# Altium integrated library ST Memory EEPROM Flash.IntLib: 1183 symbols (part 14 of 23)
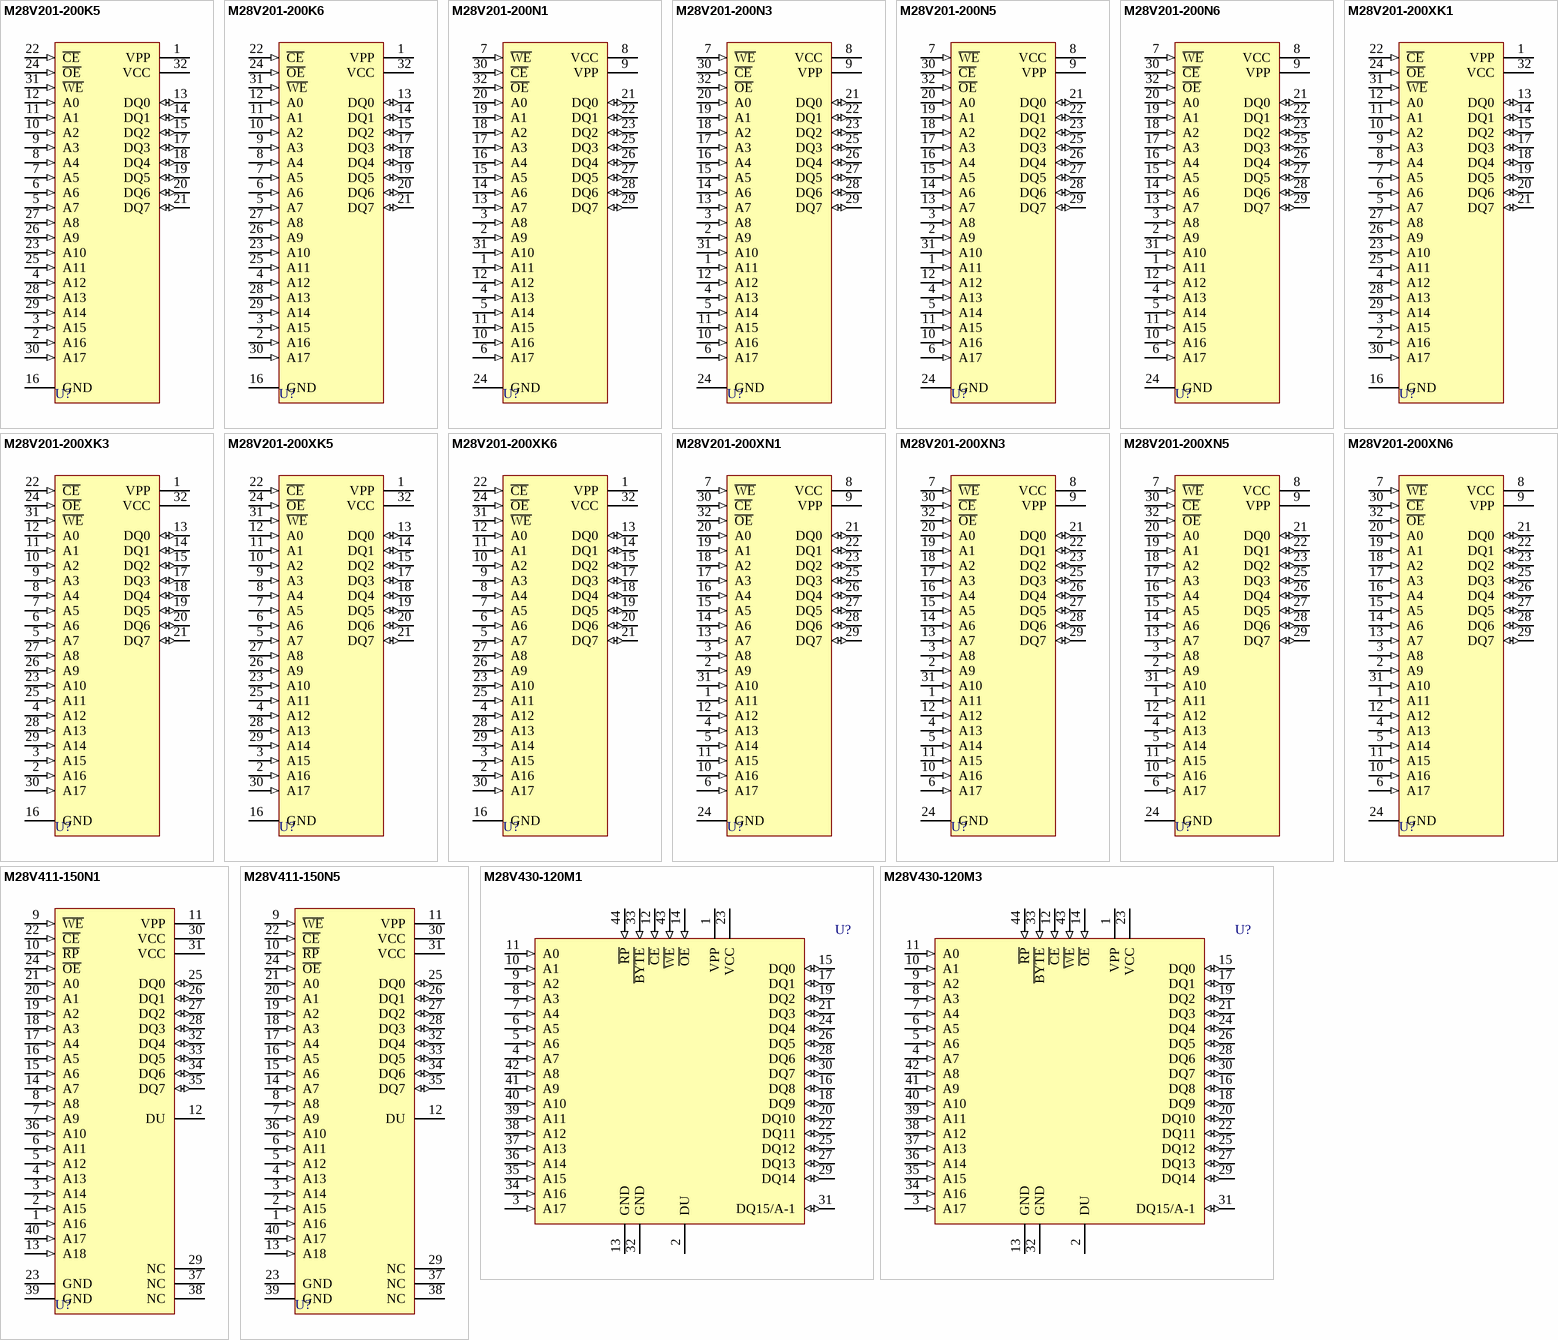
[diagram p94: symbols M28V201-200K5 to M28V430-120M3]

## M28V201-200XN6
designator U?
Low-Voltage 2 Mbit ( 256K x 8, Chip Erase) Flash Memory; Published: 24-Aug-2001; LatestRevisionDate: 26-May-2004; LatestRevisionNote: Pad length of PCB Footprint increased.; DatasheetDocument: Mar-1996; PackageDocument: Mar-1999; PackageReference: TSOP32; Publisher: Altium Limited; Code_JEDEC: MO-142-BD
footprint TSOP32 (Shrink Small Outline, Plastic, Thin; 32 Leads; Body Width 18.4 mm; Pitch 0.5 mm)
pins: 1 A11 (in), 2 A9 (in), 3 A8 (in), 4 A13 (in), 5 A14 (in), 6 A17 (in), 7 ~{WE} (in), 8 VCC (power), 9 VPP (power), 10 A16 (in), 11 A15 (in), 12 A12 (in), 13 A7 (in), 14 A6 (in), 15 A5 (in), 16 A4 (in), 17 A3 (in), 18 A2 (in), 19 A1 (in), 20 A0 (in), 21 DQ0 (io), 22 DQ1 (io), 23 DQ2 (io), 24 GND (power), 25 DQ3 (io), 26 DQ4 (io), 27 DQ5 (io), 28 DQ6 (io), 29 DQ7 (io), 30 ~{CE} (in), 31 A10 (in), 32 ~{OE} (in)

## M28V411-150N1
designator U?
Low-Voltage 4 Mbit (x8, Block Erase) Flash Memory; Note: Do Not Use pin number 12 (DU).; Published: 24-Aug-2001; LatestRevisionDate: 17-Jul-2002; LatestRevisionNote: Re-released for DXP Platform.; DatasheetDocument: Oct-1995; PackageDocument: Jul-1998; PackageReference: TSOP40A; Publisher: Altium Limited; Code_JEDEC: MO-142-CD
footprint TSOP40A (Shrink Small Outline, Plastic, Thin; 40 Leads; Body Width 18.4 mm; Pitch 0.5 mm)
pins: 1 A16 (in), 2 A15 (in), 3 A14 (in), 4 A13 (in), 5 A12 (in), 6 A11 (in), 7 A9 (in), 8 A8 (in), 9 ~{WE} (in), 10 ~{RP} (in), 11 VPP (power), 12 DU, 13 A18 (in), 14 A7 (in), 15 A6 (in), 16 A5 (in), 17 A4 (in), 18 A3 (in), 19 A2 (in), 20 A1 (in), 21 A0 (in), 22 ~{CE} (in), 23 GND (power), 24 ~{OE} (in), 25 DQ0 (io), 26 DQ1 (io), 27 DQ2 (io), 28 DQ3 (io), 29 NC, 30 VCC (power), 31 VCC (power), 32 DQ4 (io), 33 DQ5 (io), 34 DQ6 (io), 35 DQ7 (io), 36 A10 (in), 37 NC, 38 NC, 39 GND (power), 40 A17 (in)

## M28V411-150N5
designator U?
Low-Voltage 4 Mbit (x8, Block Erase) Flash Memory; Note: Do Not Use pin number 12 (DU).; Published: 24-Aug-2001; LatestRevisionDate: 17-Jul-2002; LatestRevisionNote: Re-released for DXP Platform.; DatasheetDocument: Oct-1995; PackageDocument: Jul-1998; PackageReference: TSOP40A; Publisher: Altium Limited; Code_JEDEC: MO-142-CD
footprint TSOP40A (Shrink Small Outline, Plastic, Thin; 40 Leads; Body Width 18.4 mm; Pitch 0.5 mm)
pins: 1 A16 (in), 2 A15 (in), 3 A14 (in), 4 A13 (in), 5 A12 (in), 6 A11 (in), 7 A9 (in), 8 A8 (in), 9 ~{WE} (in), 10 ~{RP} (in), 11 VPP (power), 12 DU, 13 A18 (in), 14 A7 (in), 15 A6 (in), 16 A5 (in), 17 A4 (in), 18 A3 (in), 19 A2 (in), 20 A1 (in), 21 A0 (in), 22 ~{CE} (in), 23 GND (power), 24 ~{OE} (in), 25 DQ0 (io), 26 DQ1 (io), 27 DQ2 (io), 28 DQ3 (io), 29 NC, 30 VCC (power), 31 VCC (power), 32 DQ4 (io), 33 DQ5 (io), 34 DQ6 (io), 35 DQ7 (io), 36 A10 (in), 37 NC, 38 NC, 39 GND (power), 40 A17 (in)

## M28V430-120M1
designator U?
Low-Voltage 4 Mbit (x8 or x16, Block Erase) Flash Memory; Note: Do Not Use pin number 2 (DU).; Published: 24-Aug-2001; LatestRevisionDate: 17-Jul-2002; LatestRevisionNote: Re-released for DXP Platform.; DatasheetDocument: Jun-1996; PackageReference: SO44; Publisher: Altium Limited
footprint SO44 (Small Outline, Plastic; 44 Leads; Body Width 13.3 mm; Pitch 1.27 mm)
pins: 1 VPP (power), 2 DU, 3 A17 (in), 4 A7 (in), 5 A6 (in), 6 A5 (in), 7 A4 (in), 8 A3 (in), 9 A2 (in), 10 A1 (in), 11 A0 (in), 12 ~{CE} (in), 13 GND (power), 14 ~{OE} (in), 15 DQ0 (io), 16 DQ8 (io), 17 DQ1 (io), 18 DQ9 (io), 19 DQ2 (io), 20 DQ10 (io), 21 DQ3 (io), 22 DQ11 (io), 23 VCC (power), 24 DQ4 (io), 25 DQ12 (io), 26 DQ5 (io), 27 DQ13 (io), 28 DQ6 (io), 29 DQ14 (io), 30 DQ7 (io), 31 DQ15/A-1 (io), 32 GND (power), 33 ~{BYTE} (in), 34 A16 (in), 35 A15 (in), 36 A14 (in), 37 A13 (in), 38 A12 (in), 39 A11 (in), 40 A10 (in), 41 A9 (in), 42 A8 (in), 43 ~{WE} (in), 44 ~{RP} (in)

## M28V430-120M3
designator U?
Low-Voltage 4 Mbit (x8 or x16, Block Erase) Flash Memory; Note: Do Not Use pin number 2 (DU).; Published: 24-Aug-2001; LatestRevisionDate: 17-Jul-2002; LatestRevisionNote: Re-released for DXP Platform.; DatasheetDocument: Jun-1996; PackageReference: SO44; Publisher: Altium Limited
footprint SO44 (Small Outline, Plastic; 44 Leads; Body Width 13.3 mm; Pitch 1.27 mm)
pins: 1 VPP (power), 2 DU, 3 A17 (in), 4 A7 (in), 5 A6 (in), 6 A5 (in), 7 A4 (in), 8 A3 (in), 9 A2 (in), 10 A1 (in), 11 A0 (in), 12 ~{CE} (in), 13 GND (power), 14 ~{OE} (in), 15 DQ0 (io), 16 DQ8 (io), 17 DQ1 (io), 18 DQ9 (io), 19 DQ2 (io), 20 DQ10 (io), 21 DQ3 (io), 22 DQ11 (io), 23 VCC (power), 24 DQ4 (io), 25 DQ12 (io), 26 DQ5 (io), 27 DQ13 (io), 28 DQ6 (io), 29 DQ14 (io), 30 DQ7 (io), 31 DQ15/A-1 (io), 32 GND (power), 33 ~{BYTE} (in), 34 A16 (in), 35 A15 (in), 36 A14 (in), 37 A13 (in), 38 A12 (in), 39 A11 (in), 40 A10 (in), 41 A9 (in), 42 A8 (in), 43 ~{WE} (in), 44 ~{RP} (in)

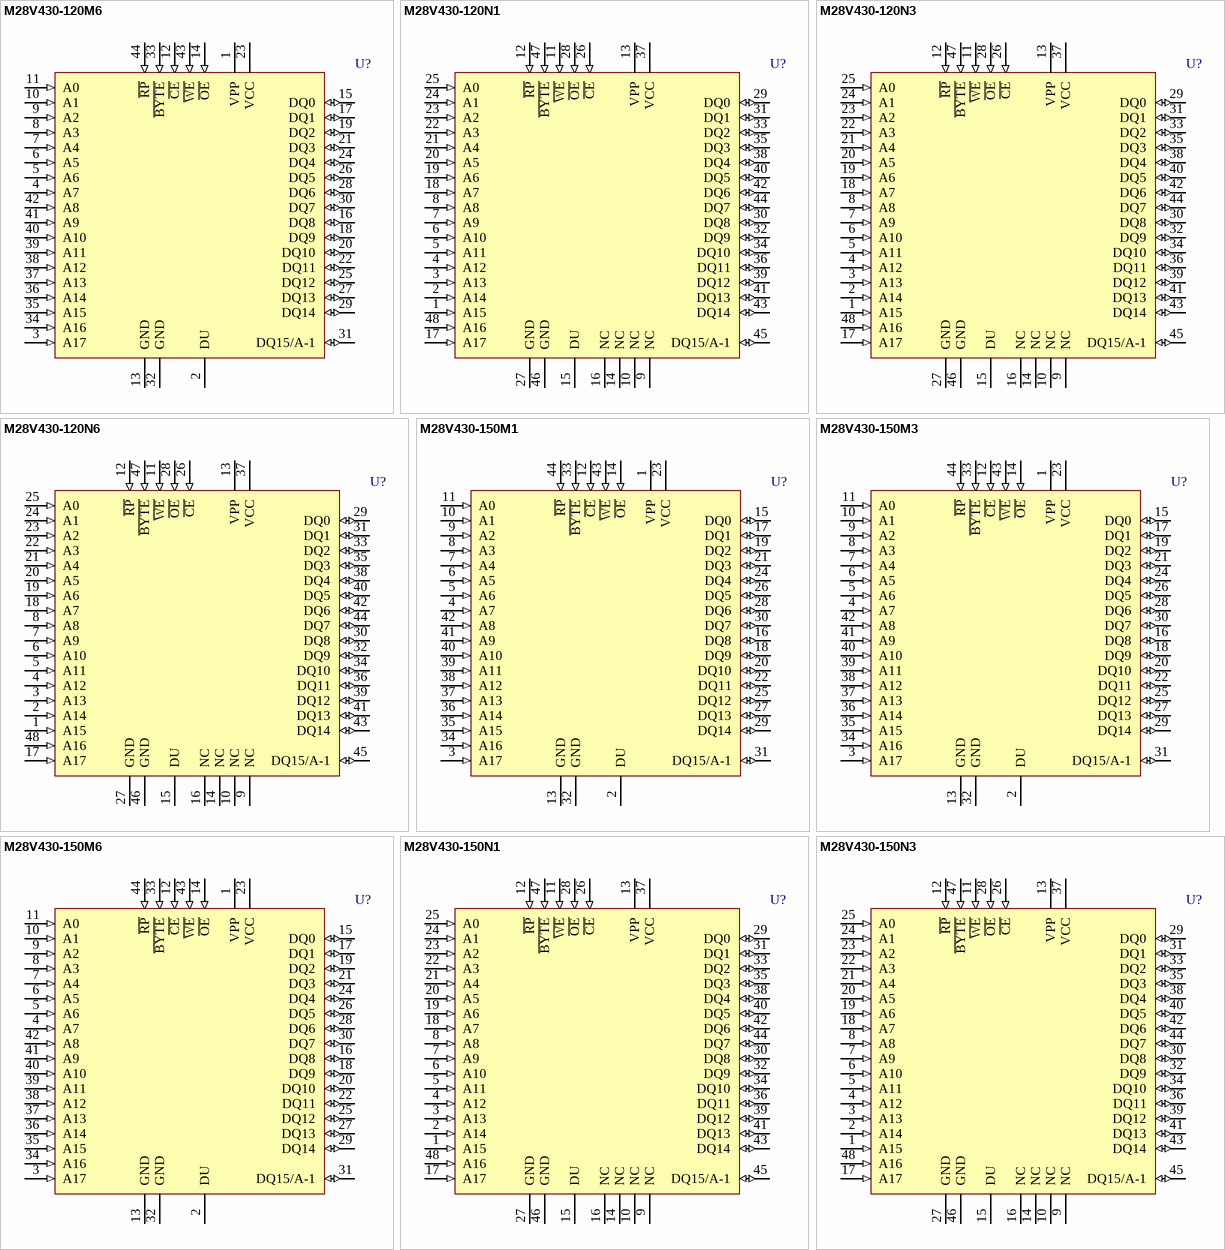
[diagram p44: symbols M28V430-120M6 to M28V430-150N3]

## M28V430-120M6
designator U?
Low-Voltage 4 Mbit (x8 or x16, Block Erase) Flash Memory; Note: Do Not Use pin number 2 (DU).; Published: 24-Aug-2001; LatestRevisionDate: 17-Jul-2002; LatestRevisionNote: Re-released for DXP Platform.; DatasheetDocument: Jun-1996; PackageReference: SO44; Publisher: Altium Limited
footprint SO44 (Small Outline, Plastic; 44 Leads; Body Width 13.3 mm; Pitch 1.27 mm)
pins: 1 VPP (power), 2 DU, 3 A17 (in), 4 A7 (in), 5 A6 (in), 6 A5 (in), 7 A4 (in), 8 A3 (in), 9 A2 (in), 10 A1 (in), 11 A0 (in), 12 ~{CE} (in), 13 GND (power), 14 ~{OE} (in), 15 DQ0 (io), 16 DQ8 (io), 17 DQ1 (io), 18 DQ9 (io), 19 DQ2 (io), 20 DQ10 (io), 21 DQ3 (io), 22 DQ11 (io), 23 VCC (power), 24 DQ4 (io), 25 DQ12 (io), 26 DQ5 (io), 27 DQ13 (io), 28 DQ6 (io), 29 DQ14 (io), 30 DQ7 (io), 31 DQ15/A-1 (io), 32 GND (power), 33 ~{BYTE} (in), 34 A16 (in), 35 A15 (in), 36 A14 (in), 37 A13 (in), 38 A12 (in), 39 A11 (in), 40 A10 (in), 41 A9 (in), 42 A8 (in), 43 ~{WE} (in), 44 ~{RP} (in)

## M28V430-120N1
designator U?
Low-Voltage 4 Mbit (x8 or x16, Block Erase) Flash Memory; Note: Do Not Use pin number 15 (DU).; Published: 24-Aug-2001; LatestRevisionDate: 17-Jul-2002; LatestRevisionNote: Re-released for DXP Platform.; DatasheetDocument: Jun-1996; PackageDocument: Jul-1998; PackageReference: TSOP48; Publisher: Altium Limited; Code_JEDEC: MO-142-DD
footprint TSOP48 (Shrink Small Outline, Plastic, Thin; 48 Leads; Body Width 18.4 mm; Pitch 0.5 mm)
pins: 1 A15 (in), 2 A14 (in), 3 A13 (in), 4 A12 (in), 5 A11 (in), 6 A10 (in), 7 A9 (in), 8 A8 (in), 9 NC, 10 NC, 11 ~{WE} (in), 12 ~{RP} (in), 13 VPP (power), 14 NC, 15 DU, 16 NC, 17 A17 (in), 18 A7 (in), 19 A6 (in), 20 A5 (in), 21 A4 (in), 22 A3 (in), 23 A2 (in), 24 A1 (in), 25 A0 (in), 26 ~{CE} (in), 27 GND (power), 28 ~{OE} (in), 29 DQ0 (io), 30 DQ8 (io), 31 DQ1 (io), 32 DQ9 (io), 33 DQ2 (io), 34 DQ10 (io), 35 DQ3 (io), 36 DQ11 (io), 37 VCC (power), 38 DQ4 (io), 39 DQ12 (io), 40 DQ5 (io), 41 DQ13 (io), 42 DQ6 (io), 43 DQ14 (io), 44 DQ7 (io), 45 DQ15/A-1 (io), 46 GND (power), 47 ~{BYTE} (in), 48 A16 (in)

## M28V430-120N3
designator U?
Low-Voltage 4 Mbit (x8 or x16, Block Erase) Flash Memory; Note: Do Not Use pin number 15 (DU).; Published: 24-Aug-2001; LatestRevisionDate: 17-Jul-2002; LatestRevisionNote: Re-released for DXP Platform.; DatasheetDocument: Jun-1996; PackageDocument: Jul-1998; PackageReference: TSOP48; Publisher: Altium Limited; Code_JEDEC: MO-142-DD
footprint TSOP48 (Shrink Small Outline, Plastic, Thin; 48 Leads; Body Width 18.4 mm; Pitch 0.5 mm)
pins: 1 A15 (in), 2 A14 (in), 3 A13 (in), 4 A12 (in), 5 A11 (in), 6 A10 (in), 7 A9 (in), 8 A8 (in), 9 NC, 10 NC, 11 ~{WE} (in), 12 ~{RP} (in), 13 VPP (power), 14 NC, 15 DU, 16 NC, 17 A17 (in), 18 A7 (in), 19 A6 (in), 20 A5 (in), 21 A4 (in), 22 A3 (in), 23 A2 (in), 24 A1 (in), 25 A0 (in), 26 ~{CE} (in), 27 GND (power), 28 ~{OE} (in), 29 DQ0 (io), 30 DQ8 (io), 31 DQ1 (io), 32 DQ9 (io), 33 DQ2 (io), 34 DQ10 (io), 35 DQ3 (io), 36 DQ11 (io), 37 VCC (power), 38 DQ4 (io), 39 DQ12 (io), 40 DQ5 (io), 41 DQ13 (io), 42 DQ6 (io), 43 DQ14 (io), 44 DQ7 (io), 45 DQ15/A-1 (io), 46 GND (power), 47 ~{BYTE} (in), 48 A16 (in)

## M28V430-120N6
designator U?
Low-Voltage 4 Mbit (x8 or x16, Block Erase) Flash Memory; Note: Do Not Use pin number 15 (DU).; Published: 24-Aug-2001; LatestRevisionDate: 17-Jul-2002; LatestRevisionNote: Re-released for DXP Platform.; DatasheetDocument: Jun-1996; PackageDocument: Jul-1998; PackageReference: TSOP48; Publisher: Altium Limited; Code_JEDEC: MO-142-DD
footprint TSOP48 (Shrink Small Outline, Plastic, Thin; 48 Leads; Body Width 18.4 mm; Pitch 0.5 mm)
pins: 1 A15 (in), 2 A14 (in), 3 A13 (in), 4 A12 (in), 5 A11 (in), 6 A10 (in), 7 A9 (in), 8 A8 (in), 9 NC, 10 NC, 11 ~{WE} (in), 12 ~{RP} (in), 13 VPP (power), 14 NC, 15 DU, 16 NC, 17 A17 (in), 18 A7 (in), 19 A6 (in), 20 A5 (in), 21 A4 (in), 22 A3 (in), 23 A2 (in), 24 A1 (in), 25 A0 (in), 26 ~{CE} (in), 27 GND (power), 28 ~{OE} (in), 29 DQ0 (io), 30 DQ8 (io), 31 DQ1 (io), 32 DQ9 (io), 33 DQ2 (io), 34 DQ10 (io), 35 DQ3 (io), 36 DQ11 (io), 37 VCC (power), 38 DQ4 (io), 39 DQ12 (io), 40 DQ5 (io), 41 DQ13 (io), 42 DQ6 (io), 43 DQ14 (io), 44 DQ7 (io), 45 DQ15/A-1 (io), 46 GND (power), 47 ~{BYTE} (in), 48 A16 (in)

## M28V430-150M1
designator U?
Low-Voltage 4 Mbit (x8 or x16, Block Erase) Flash Memory; Note: Do Not Use pin number 2 (DU).; Published: 24-Aug-2001; LatestRevisionDate: 17-Jul-2002; LatestRevisionNote: Re-released for DXP Platform.; DatasheetDocument: Jun-1996; PackageReference: SO44; Publisher: Altium Limited
footprint SO44 (Small Outline, Plastic; 44 Leads; Body Width 13.3 mm; Pitch 1.27 mm)
pins: 1 VPP (power), 2 DU, 3 A17 (in), 4 A7 (in), 5 A6 (in), 6 A5 (in), 7 A4 (in), 8 A3 (in), 9 A2 (in), 10 A1 (in), 11 A0 (in), 12 ~{CE} (in), 13 GND (power), 14 ~{OE} (in), 15 DQ0 (io), 16 DQ8 (io), 17 DQ1 (io), 18 DQ9 (io), 19 DQ2 (io), 20 DQ10 (io), 21 DQ3 (io), 22 DQ11 (io), 23 VCC (power), 24 DQ4 (io), 25 DQ12 (io), 26 DQ5 (io), 27 DQ13 (io), 28 DQ6 (io), 29 DQ14 (io), 30 DQ7 (io), 31 DQ15/A-1 (io), 32 GND (power), 33 ~{BYTE} (in), 34 A16 (in), 35 A15 (in), 36 A14 (in), 37 A13 (in), 38 A12 (in), 39 A11 (in), 40 A10 (in), 41 A9 (in), 42 A8 (in), 43 ~{WE} (in), 44 ~{RP} (in)

## M28V430-150M3
designator U?
Low-Voltage 4 Mbit (x8 or x16, Block Erase) Flash Memory; Note: Do Not Use pin number 2 (DU).; Published: 24-Aug-2001; LatestRevisionDate: 17-Jul-2002; LatestRevisionNote: Re-released for DXP Platform.; DatasheetDocument: Jun-1996; PackageReference: SO44; Publisher: Altium Limited
footprint SO44 (Small Outline, Plastic; 44 Leads; Body Width 13.3 mm; Pitch 1.27 mm)
pins: 1 VPP (power), 2 DU, 3 A17 (in), 4 A7 (in), 5 A6 (in), 6 A5 (in), 7 A4 (in), 8 A3 (in), 9 A2 (in), 10 A1 (in), 11 A0 (in), 12 ~{CE} (in), 13 GND (power), 14 ~{OE} (in), 15 DQ0 (io), 16 DQ8 (io), 17 DQ1 (io), 18 DQ9 (io), 19 DQ2 (io), 20 DQ10 (io), 21 DQ3 (io), 22 DQ11 (io), 23 VCC (power), 24 DQ4 (io), 25 DQ12 (io), 26 DQ5 (io), 27 DQ13 (io), 28 DQ6 (io), 29 DQ14 (io), 30 DQ7 (io), 31 DQ15/A-1 (io), 32 GND (power), 33 ~{BYTE} (in), 34 A16 (in), 35 A15 (in), 36 A14 (in), 37 A13 (in), 38 A12 (in), 39 A11 (in), 40 A10 (in), 41 A9 (in), 42 A8 (in), 43 ~{WE} (in), 44 ~{RP} (in)

## M28V430-150M6
designator U?
Low-Voltage 4 Mbit (x8 or x16, Block Erase) Flash Memory; Note: Do Not Use pin number 2 (DU).; Published: 24-Aug-2001; LatestRevisionDate: 17-Jul-2002; LatestRevisionNote: Re-released for DXP Platform.; DatasheetDocument: Jun-1996; PackageReference: SO44; Publisher: Altium Limited
footprint SO44 (Small Outline, Plastic; 44 Leads; Body Width 13.3 mm; Pitch 1.27 mm)
pins: 1 VPP (power), 2 DU, 3 A17 (in), 4 A7 (in), 5 A6 (in), 6 A5 (in), 7 A4 (in), 8 A3 (in), 9 A2 (in), 10 A1 (in), 11 A0 (in), 12 ~{CE} (in), 13 GND (power), 14 ~{OE} (in), 15 DQ0 (io), 16 DQ8 (io), 17 DQ1 (io), 18 DQ9 (io), 19 DQ2 (io), 20 DQ10 (io), 21 DQ3 (io), 22 DQ11 (io), 23 VCC (power), 24 DQ4 (io), 25 DQ12 (io), 26 DQ5 (io), 27 DQ13 (io), 28 DQ6 (io), 29 DQ14 (io), 30 DQ7 (io), 31 DQ15/A-1 (io), 32 GND (power), 33 ~{BYTE} (in), 34 A16 (in), 35 A15 (in), 36 A14 (in), 37 A13 (in), 38 A12 (in), 39 A11 (in), 40 A10 (in), 41 A9 (in), 42 A8 (in), 43 ~{WE} (in), 44 ~{RP} (in)

## M28V430-150N1
designator U?
Low-Voltage 4 Mbit (x8 or x16, Block Erase) Flash Memory; Note: Do Not Use pin number 15 (DU).; Published: 24-Aug-2001; LatestRevisionDate: 17-Jul-2002; LatestRevisionNote: Re-released for DXP Platform.; DatasheetDocument: Jun-1996; PackageDocument: Jul-1998; PackageReference: TSOP48; Publisher: Altium Limited; Code_JEDEC: MO-142-DD
footprint TSOP48 (Shrink Small Outline, Plastic, Thin; 48 Leads; Body Width 18.4 mm; Pitch 0.5 mm)
pins: 1 A15 (in), 2 A14 (in), 3 A13 (in), 4 A12 (in), 5 A11 (in), 6 A10 (in), 7 A9 (in), 8 A8 (in), 9 NC, 10 NC, 11 ~{WE} (in), 12 ~{RP} (in), 13 VPP (power), 14 NC, 15 DU, 16 NC, 17 A17 (in), 18 A7 (in), 19 A6 (in), 20 A5 (in), 21 A4 (in), 22 A3 (in), 23 A2 (in), 24 A1 (in), 25 A0 (in), 26 ~{CE} (in), 27 GND (power), 28 ~{OE} (in), 29 DQ0 (io), 30 DQ8 (io), 31 DQ1 (io), 32 DQ9 (io), 33 DQ2 (io), 34 DQ10 (io), 35 DQ3 (io), 36 DQ11 (io), 37 VCC (power), 38 DQ4 (io), 39 DQ12 (io), 40 DQ5 (io), 41 DQ13 (io), 42 DQ6 (io), 43 DQ14 (io), 44 DQ7 (io), 45 DQ15/A-1 (io), 46 GND (power), 47 ~{BYTE} (in), 48 A16 (in)

## M28V430-150N3
designator U?
Low-Voltage 4 Mbit (x8 or x16, Block Erase) Flash Memory; Note: Do Not Use pin number 15 (DU).; Published: 24-Aug-2001; LatestRevisionDate: 17-Jul-2002; LatestRevisionNote: Re-released for DXP Platform.; DatasheetDocument: Jun-1996; PackageDocument: Jul-1998; PackageReference: TSOP48; Publisher: Altium Limited; Code_JEDEC: MO-142-DD
footprint TSOP48 (Shrink Small Outline, Plastic, Thin; 48 Leads; Body Width 18.4 mm; Pitch 0.5 mm)
pins: 1 A15 (in), 2 A14 (in), 3 A13 (in), 4 A12 (in), 5 A11 (in), 6 A10 (in), 7 A9 (in), 8 A8 (in), 9 NC, 10 NC, 11 ~{WE} (in), 12 ~{RP} (in), 13 VPP (power), 14 NC, 15 DU, 16 NC, 17 A17 (in), 18 A7 (in), 19 A6 (in), 20 A5 (in), 21 A4 (in), 22 A3 (in), 23 A2 (in), 24 A1 (in), 25 A0 (in), 26 ~{CE} (in), 27 GND (power), 28 ~{OE} (in), 29 DQ0 (io), 30 DQ8 (io), 31 DQ1 (io), 32 DQ9 (io), 33 DQ2 (io), 34 DQ10 (io), 35 DQ3 (io), 36 DQ11 (io), 37 VCC (power), 38 DQ4 (io), 39 DQ12 (io), 40 DQ5 (io), 41 DQ13 (io), 42 DQ6 (io), 43 DQ14 (io), 44 DQ7 (io), 45 DQ15/A-1 (io), 46 GND (power), 47 ~{BYTE} (in), 48 A16 (in)

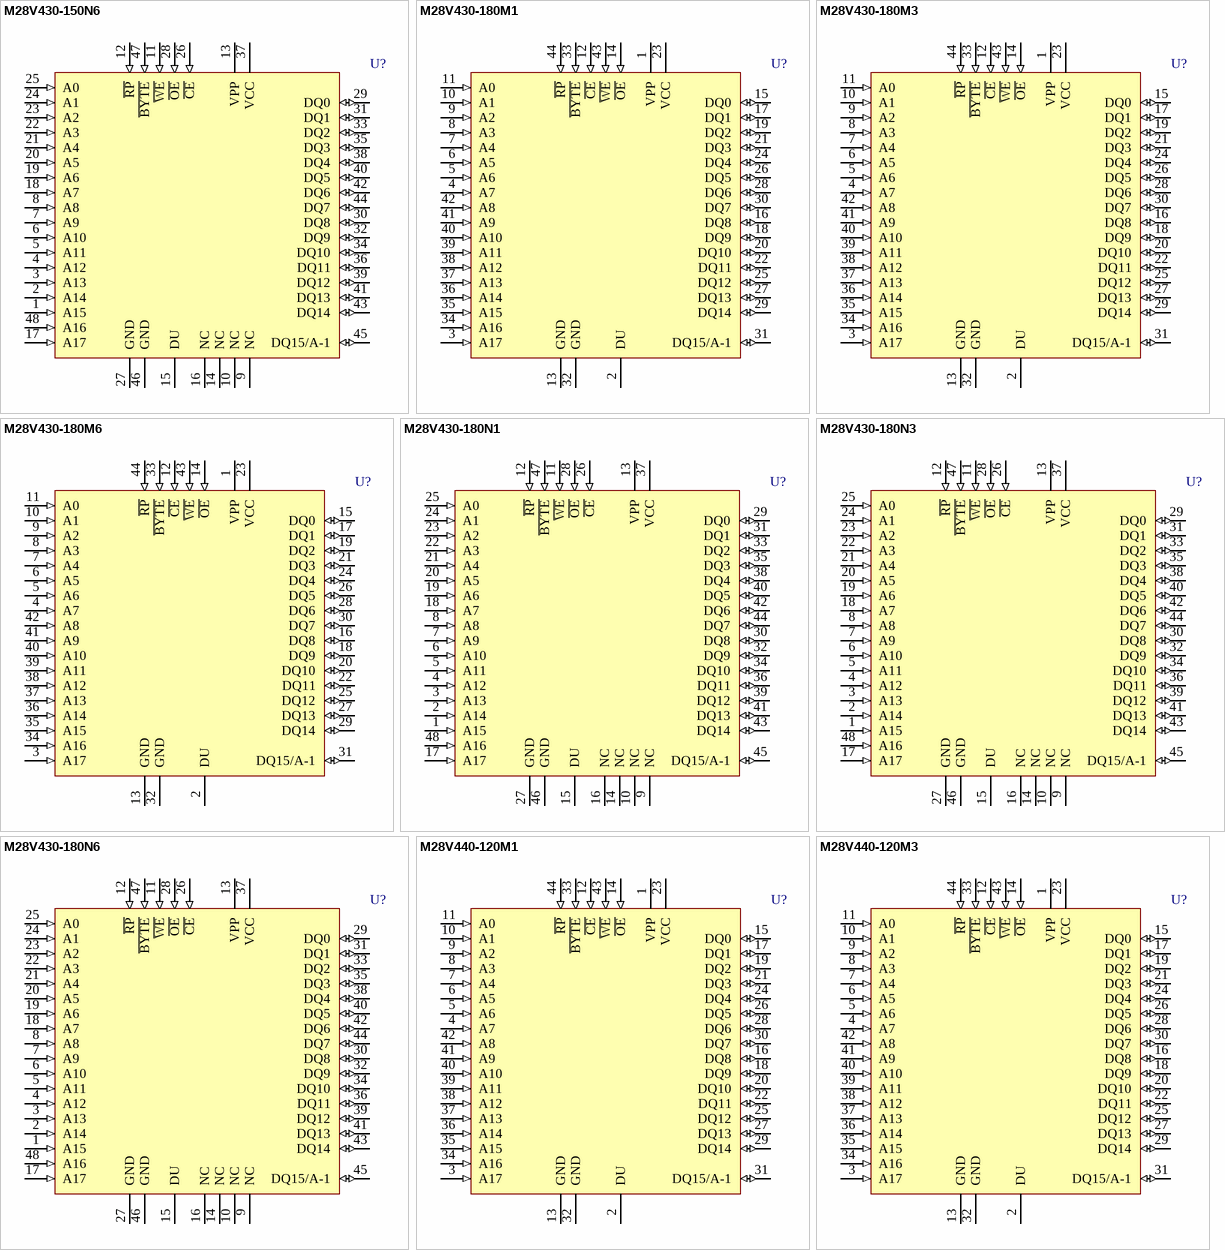
[diagram p45: symbols M28V430-150N6 to M28V440-120M3]

## M28V430-150N6
designator U?
Low-Voltage 4 Mbit (x8 or x16, Block Erase) Flash Memory; Note: Do Not Use pin number 15 (DU).; Published: 24-Aug-2001; LatestRevisionDate: 17-Jul-2002; LatestRevisionNote: Re-released for DXP Platform.; DatasheetDocument: Jun-1996; PackageDocument: Jul-1998; PackageReference: TSOP48; Publisher: Altium Limited; Code_JEDEC: MO-142-DD
footprint TSOP48 (Shrink Small Outline, Plastic, Thin; 48 Leads; Body Width 18.4 mm; Pitch 0.5 mm)
pins: 1 A15 (in), 2 A14 (in), 3 A13 (in), 4 A12 (in), 5 A11 (in), 6 A10 (in), 7 A9 (in), 8 A8 (in), 9 NC, 10 NC, 11 ~{WE} (in), 12 ~{RP} (in), 13 VPP (power), 14 NC, 15 DU, 16 NC, 17 A17 (in), 18 A7 (in), 19 A6 (in), 20 A5 (in), 21 A4 (in), 22 A3 (in), 23 A2 (in), 24 A1 (in), 25 A0 (in), 26 ~{CE} (in), 27 GND (power), 28 ~{OE} (in), 29 DQ0 (io), 30 DQ8 (io), 31 DQ1 (io), 32 DQ9 (io), 33 DQ2 (io), 34 DQ10 (io), 35 DQ3 (io), 36 DQ11 (io), 37 VCC (power), 38 DQ4 (io), 39 DQ12 (io), 40 DQ5 (io), 41 DQ13 (io), 42 DQ6 (io), 43 DQ14 (io), 44 DQ7 (io), 45 DQ15/A-1 (io), 46 GND (power), 47 ~{BYTE} (in), 48 A16 (in)

## M28V430-180M1
designator U?
Low-Voltage 4 Mbit (x8 or x16, Block Erase) Flash Memory; Note: Do Not Use pin number 2 (DU).; Published: 24-Aug-2001; LatestRevisionDate: 17-Jul-2002; LatestRevisionNote: Re-released for DXP Platform.; DatasheetDocument: Jun-1996; PackageReference: SO44; Publisher: Altium Limited
footprint SO44 (Small Outline, Plastic; 44 Leads; Body Width 13.3 mm; Pitch 1.27 mm)
pins: 1 VPP (power), 2 DU, 3 A17 (in), 4 A7 (in), 5 A6 (in), 6 A5 (in), 7 A4 (in), 8 A3 (in), 9 A2 (in), 10 A1 (in), 11 A0 (in), 12 ~{CE} (in), 13 GND (power), 14 ~{OE} (in), 15 DQ0 (io), 16 DQ8 (io), 17 DQ1 (io), 18 DQ9 (io), 19 DQ2 (io), 20 DQ10 (io), 21 DQ3 (io), 22 DQ11 (io), 23 VCC (power), 24 DQ4 (io), 25 DQ12 (io), 26 DQ5 (io), 27 DQ13 (io), 28 DQ6 (io), 29 DQ14 (io), 30 DQ7 (io), 31 DQ15/A-1 (io), 32 GND (power), 33 ~{BYTE} (in), 34 A16 (in), 35 A15 (in), 36 A14 (in), 37 A13 (in), 38 A12 (in), 39 A11 (in), 40 A10 (in), 41 A9 (in), 42 A8 (in), 43 ~{WE} (in), 44 ~{RP} (in)

## M28V430-180M3
designator U?
Low-Voltage 4 Mbit (x8 or x16, Block Erase) Flash Memory; Note: Do Not Use pin number 2 (DU).; Published: 24-Aug-2001; LatestRevisionDate: 17-Jul-2002; LatestRevisionNote: Re-released for DXP Platform.; DatasheetDocument: Jun-1996; PackageReference: SO44; Publisher: Altium Limited
footprint SO44 (Small Outline, Plastic; 44 Leads; Body Width 13.3 mm; Pitch 1.27 mm)
pins: 1 VPP (power), 2 DU, 3 A17 (in), 4 A7 (in), 5 A6 (in), 6 A5 (in), 7 A4 (in), 8 A3 (in), 9 A2 (in), 10 A1 (in), 11 A0 (in), 12 ~{CE} (in), 13 GND (power), 14 ~{OE} (in), 15 DQ0 (io), 16 DQ8 (io), 17 DQ1 (io), 18 DQ9 (io), 19 DQ2 (io), 20 DQ10 (io), 21 DQ3 (io), 22 DQ11 (io), 23 VCC (power), 24 DQ4 (io), 25 DQ12 (io), 26 DQ5 (io), 27 DQ13 (io), 28 DQ6 (io), 29 DQ14 (io), 30 DQ7 (io), 31 DQ15/A-1 (io), 32 GND (power), 33 ~{BYTE} (in), 34 A16 (in), 35 A15 (in), 36 A14 (in), 37 A13 (in), 38 A12 (in), 39 A11 (in), 40 A10 (in), 41 A9 (in), 42 A8 (in), 43 ~{WE} (in), 44 ~{RP} (in)

## M28V430-180M6
designator U?
Low-Voltage 4 Mbit (x8 or x16, Block Erase) Flash Memory; Note: Do Not Use pin number 2 (DU).; Published: 24-Aug-2001; LatestRevisionDate: 17-Jul-2002; LatestRevisionNote: Re-released for DXP Platform.; DatasheetDocument: Jun-1996; PackageReference: SO44; Publisher: Altium Limited
footprint SO44 (Small Outline, Plastic; 44 Leads; Body Width 13.3 mm; Pitch 1.27 mm)
pins: 1 VPP (power), 2 DU, 3 A17 (in), 4 A7 (in), 5 A6 (in), 6 A5 (in), 7 A4 (in), 8 A3 (in), 9 A2 (in), 10 A1 (in), 11 A0 (in), 12 ~{CE} (in), 13 GND (power), 14 ~{OE} (in), 15 DQ0 (io), 16 DQ8 (io), 17 DQ1 (io), 18 DQ9 (io), 19 DQ2 (io), 20 DQ10 (io), 21 DQ3 (io), 22 DQ11 (io), 23 VCC (power), 24 DQ4 (io), 25 DQ12 (io), 26 DQ5 (io), 27 DQ13 (io), 28 DQ6 (io), 29 DQ14 (io), 30 DQ7 (io), 31 DQ15/A-1 (io), 32 GND (power), 33 ~{BYTE} (in), 34 A16 (in), 35 A15 (in), 36 A14 (in), 37 A13 (in), 38 A12 (in), 39 A11 (in), 40 A10 (in), 41 A9 (in), 42 A8 (in), 43 ~{WE} (in), 44 ~{RP} (in)

## M28V430-180N1
designator U?
Low-Voltage 4 Mbit (x8 or x16, Block Erase) Flash Memory; Note: Do Not Use pin number 15 (DU).; Published: 24-Aug-2001; LatestRevisionDate: 17-Jul-2002; LatestRevisionNote: Re-released for DXP Platform.; DatasheetDocument: Jun-1996; PackageDocument: Jul-1998; PackageReference: TSOP48; Publisher: Altium Limited; Code_JEDEC: MO-142-DD
footprint TSOP48 (Shrink Small Outline, Plastic, Thin; 48 Leads; Body Width 18.4 mm; Pitch 0.5 mm)
pins: 1 A15 (in), 2 A14 (in), 3 A13 (in), 4 A12 (in), 5 A11 (in), 6 A10 (in), 7 A9 (in), 8 A8 (in), 9 NC, 10 NC, 11 ~{WE} (in), 12 ~{RP} (in), 13 VPP (power), 14 NC, 15 DU, 16 NC, 17 A17 (in), 18 A7 (in), 19 A6 (in), 20 A5 (in), 21 A4 (in), 22 A3 (in), 23 A2 (in), 24 A1 (in), 25 A0 (in), 26 ~{CE} (in), 27 GND (power), 28 ~{OE} (in), 29 DQ0 (io), 30 DQ8 (io), 31 DQ1 (io), 32 DQ9 (io), 33 DQ2 (io), 34 DQ10 (io), 35 DQ3 (io), 36 DQ11 (io), 37 VCC (power), 38 DQ4 (io), 39 DQ12 (io), 40 DQ5 (io), 41 DQ13 (io), 42 DQ6 (io), 43 DQ14 (io), 44 DQ7 (io), 45 DQ15/A-1 (io), 46 GND (power), 47 ~{BYTE} (in), 48 A16 (in)

## M28V430-180N3
designator U?
Low-Voltage 4 Mbit (x8 or x16, Block Erase) Flash Memory; Note: Do Not Use pin number 15 (DU).; Published: 24-Aug-2001; LatestRevisionDate: 17-Jul-2002; LatestRevisionNote: Re-released for DXP Platform.; DatasheetDocument: Jun-1996; PackageDocument: Jul-1998; PackageReference: TSOP48; Publisher: Altium Limited; Code_JEDEC: MO-142-DD
footprint TSOP48 (Shrink Small Outline, Plastic, Thin; 48 Leads; Body Width 18.4 mm; Pitch 0.5 mm)
pins: 1 A15 (in), 2 A14 (in), 3 A13 (in), 4 A12 (in), 5 A11 (in), 6 A10 (in), 7 A9 (in), 8 A8 (in), 9 NC, 10 NC, 11 ~{WE} (in), 12 ~{RP} (in), 13 VPP (power), 14 NC, 15 DU, 16 NC, 17 A17 (in), 18 A7 (in), 19 A6 (in), 20 A5 (in), 21 A4 (in), 22 A3 (in), 23 A2 (in), 24 A1 (in), 25 A0 (in), 26 ~{CE} (in), 27 GND (power), 28 ~{OE} (in), 29 DQ0 (io), 30 DQ8 (io), 31 DQ1 (io), 32 DQ9 (io), 33 DQ2 (io), 34 DQ10 (io), 35 DQ3 (io), 36 DQ11 (io), 37 VCC (power), 38 DQ4 (io), 39 DQ12 (io), 40 DQ5 (io), 41 DQ13 (io), 42 DQ6 (io), 43 DQ14 (io), 44 DQ7 (io), 45 DQ15/A-1 (io), 46 GND (power), 47 ~{BYTE} (in), 48 A16 (in)

## M28V430-180N6
designator U?
Low-Voltage 4 Mbit (x8 or x16, Block Erase) Flash Memory; Note: Do Not Use pin number 15 (DU).; Published: 24-Aug-2001; LatestRevisionDate: 17-Jul-2002; LatestRevisionNote: Re-released for DXP Platform.; DatasheetDocument: Jun-1996; PackageDocument: Jul-1998; PackageReference: TSOP48; Publisher: Altium Limited; Code_JEDEC: MO-142-DD
footprint TSOP48 (Shrink Small Outline, Plastic, Thin; 48 Leads; Body Width 18.4 mm; Pitch 0.5 mm)
pins: 1 A15 (in), 2 A14 (in), 3 A13 (in), 4 A12 (in), 5 A11 (in), 6 A10 (in), 7 A9 (in), 8 A8 (in), 9 NC, 10 NC, 11 ~{WE} (in), 12 ~{RP} (in), 13 VPP (power), 14 NC, 15 DU, 16 NC, 17 A17 (in), 18 A7 (in), 19 A6 (in), 20 A5 (in), 21 A4 (in), 22 A3 (in), 23 A2 (in), 24 A1 (in), 25 A0 (in), 26 ~{CE} (in), 27 GND (power), 28 ~{OE} (in), 29 DQ0 (io), 30 DQ8 (io), 31 DQ1 (io), 32 DQ9 (io), 33 DQ2 (io), 34 DQ10 (io), 35 DQ3 (io), 36 DQ11 (io), 37 VCC (power), 38 DQ4 (io), 39 DQ12 (io), 40 DQ5 (io), 41 DQ13 (io), 42 DQ6 (io), 43 DQ14 (io), 44 DQ7 (io), 45 DQ15/A-1 (io), 46 GND (power), 47 ~{BYTE} (in), 48 A16 (in)

## M28V440-120M1
designator U?
Low-Voltage 4 Mbit (x8 or x16, Block Erase) Flash Memory; Note: Do Not Use pin number 2 (DU).; Published: 24-Aug-2001; LatestRevisionDate: 17-Jul-2002; LatestRevisionNote: Re-released for DXP Platform.; DatasheetDocument: Jun-1996; PackageReference: SO44; Publisher: Altium Limited
footprint SO44 (Small Outline, Plastic; 44 Leads; Body Width 13.3 mm; Pitch 1.27 mm)
pins: 1 VPP (power), 2 DU, 3 A17 (in), 4 A7 (in), 5 A6 (in), 6 A5 (in), 7 A4 (in), 8 A3 (in), 9 A2 (in), 10 A1 (in), 11 A0 (in), 12 ~{CE} (in), 13 GND (power), 14 ~{OE} (in), 15 DQ0 (io), 16 DQ8 (io), 17 DQ1 (io), 18 DQ9 (io), 19 DQ2 (io), 20 DQ10 (io), 21 DQ3 (io), 22 DQ11 (io), 23 VCC (power), 24 DQ4 (io), 25 DQ12 (io), 26 DQ5 (io), 27 DQ13 (io), 28 DQ6 (io), 29 DQ14 (io), 30 DQ7 (io), 31 DQ15/A-1 (io), 32 GND (power), 33 ~{BYTE} (in), 34 A16 (in), 35 A15 (in), 36 A14 (in), 37 A13 (in), 38 A12 (in), 39 A11 (in), 40 A10 (in), 41 A9 (in), 42 A8 (in), 43 ~{WE} (in), 44 ~{RP} (in)

## M28V440-120M3
designator U?
Low-Voltage 4 Mbit (x8 or x16, Block Erase) Flash Memory; Note: Do Not Use pin number 2 (DU).; Published: 24-Aug-2001; LatestRevisionDate: 17-Jul-2002; LatestRevisionNote: Re-released for DXP Platform.; DatasheetDocument: Jun-1996; PackageReference: SO44; Publisher: Altium Limited
footprint SO44 (Small Outline, Plastic; 44 Leads; Body Width 13.3 mm; Pitch 1.27 mm)
pins: 1 VPP (power), 2 DU, 3 A17 (in), 4 A7 (in), 5 A6 (in), 6 A5 (in), 7 A4 (in), 8 A3 (in), 9 A2 (in), 10 A1 (in), 11 A0 (in), 12 ~{CE} (in), 13 GND (power), 14 ~{OE} (in), 15 DQ0 (io), 16 DQ8 (io), 17 DQ1 (io), 18 DQ9 (io), 19 DQ2 (io), 20 DQ10 (io), 21 DQ3 (io), 22 DQ11 (io), 23 VCC (power), 24 DQ4 (io), 25 DQ12 (io), 26 DQ5 (io), 27 DQ13 (io), 28 DQ6 (io), 29 DQ14 (io), 30 DQ7 (io), 31 DQ15/A-1 (io), 32 GND (power), 33 ~{BYTE} (in), 34 A16 (in), 35 A15 (in), 36 A14 (in), 37 A13 (in), 38 A12 (in), 39 A11 (in), 40 A10 (in), 41 A9 (in), 42 A8 (in), 43 ~{WE} (in), 44 ~{RP} (in)

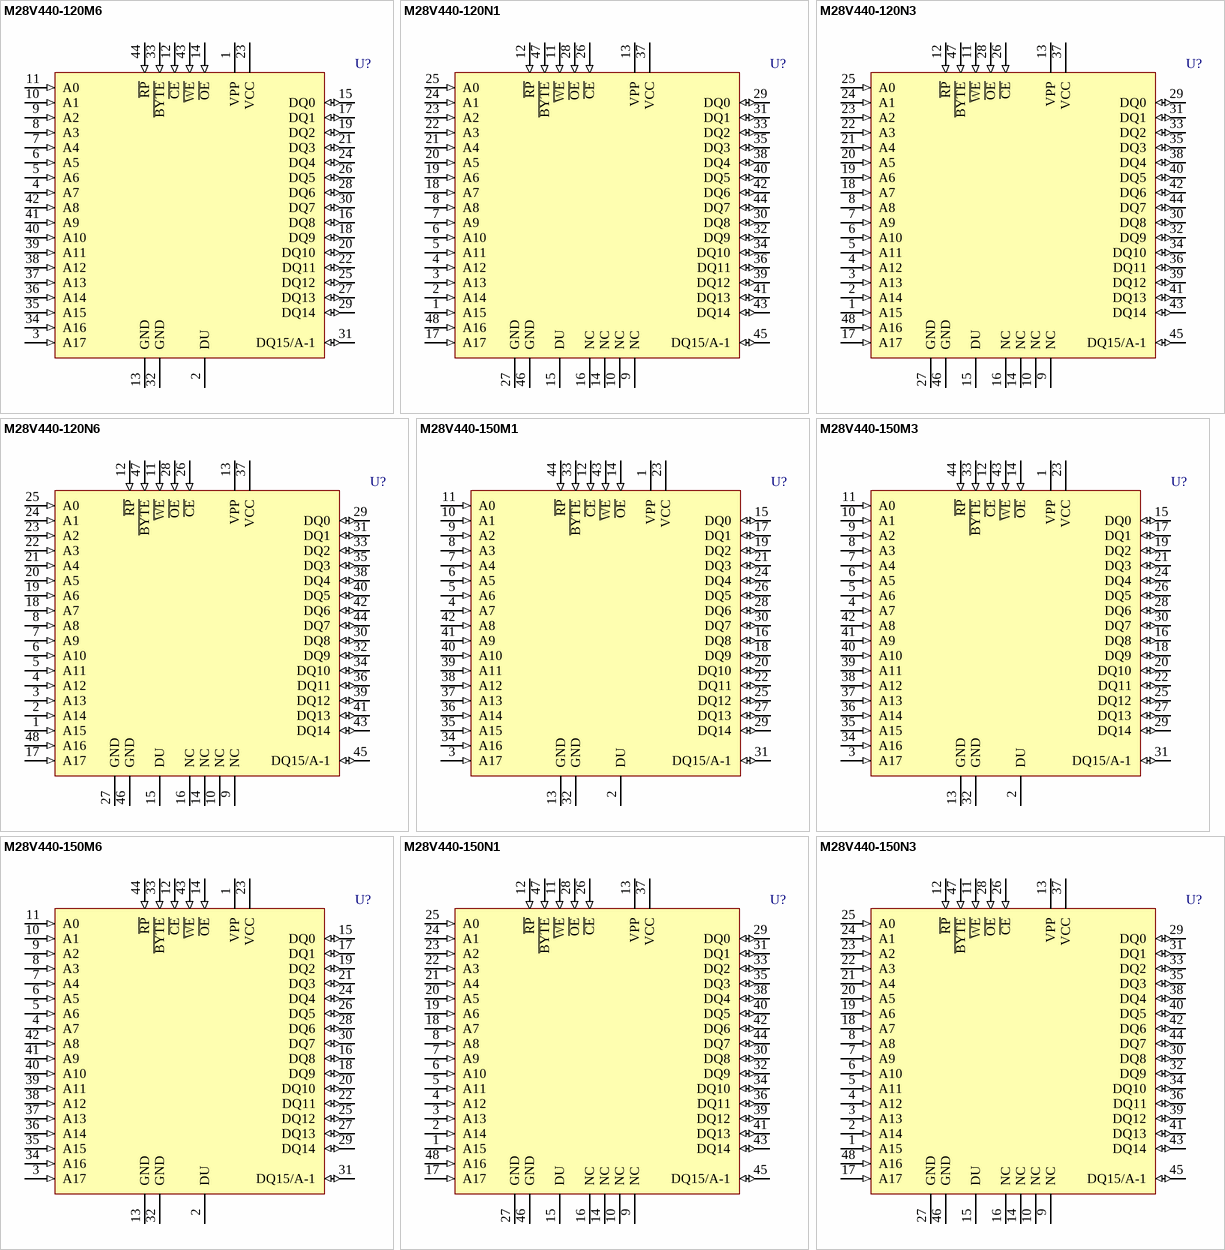
[diagram p46: symbols M28V440-120M6 to M28V440-150N3]

## M28V440-120M6
designator U?
Low-Voltage 4 Mbit (x8 or x16, Block Erase) Flash Memory; Note: Do Not Use pin number 2 (DU).; Published: 24-Aug-2001; LatestRevisionDate: 17-Jul-2002; LatestRevisionNote: Re-released for DXP Platform.; DatasheetDocument: Jun-1996; PackageReference: SO44; Publisher: Altium Limited
footprint SO44 (Small Outline, Plastic; 44 Leads; Body Width 13.3 mm; Pitch 1.27 mm)
pins: 1 VPP (power), 2 DU, 3 A17 (in), 4 A7 (in), 5 A6 (in), 6 A5 (in), 7 A4 (in), 8 A3 (in), 9 A2 (in), 10 A1 (in), 11 A0 (in), 12 ~{CE} (in), 13 GND (power), 14 ~{OE} (in), 15 DQ0 (io), 16 DQ8 (io), 17 DQ1 (io), 18 DQ9 (io), 19 DQ2 (io), 20 DQ10 (io), 21 DQ3 (io), 22 DQ11 (io), 23 VCC (power), 24 DQ4 (io), 25 DQ12 (io), 26 DQ5 (io), 27 DQ13 (io), 28 DQ6 (io), 29 DQ14 (io), 30 DQ7 (io), 31 DQ15/A-1 (io), 32 GND (power), 33 ~{BYTE} (in), 34 A16 (in), 35 A15 (in), 36 A14 (in), 37 A13 (in), 38 A12 (in), 39 A11 (in), 40 A10 (in), 41 A9 (in), 42 A8 (in), 43 ~{WE} (in), 44 ~{RP} (in)

## M28V440-120N1
designator U?
Low-Voltage 4 Mbit (x8 or x16, Block Erase) Flash Memory; Note: Do Not Use pin number 15 (DU).; Published: 24-Aug-2001; LatestRevisionDate: 17-Jul-2002; LatestRevisionNote: Re-released for DXP Platform.; DatasheetDocument: Jun-1996; PackageDocument: Jul-1998; PackageReference: TSOP48; Publisher: Altium Limited; Code_JEDEC: MO-142-DD
footprint TSOP48 (Shrink Small Outline, Plastic, Thin; 48 Leads; Body Width 18.4 mm; Pitch 0.5 mm)
pins: 1 A15 (in), 2 A14 (in), 3 A13 (in), 4 A12 (in), 5 A11 (in), 6 A10 (in), 7 A9 (in), 8 A8 (in), 9 NC, 10 NC, 11 ~{WE} (in), 12 ~{RP} (in), 13 VPP (power), 14 NC, 15 DU, 16 NC, 17 A17 (in), 18 A7 (in), 19 A6 (in), 20 A5 (in), 21 A4 (in), 22 A3 (in), 23 A2 (in), 24 A1 (in), 25 A0 (in), 26 ~{CE} (in), 27 GND (power), 28 ~{OE} (in), 29 DQ0 (io), 30 DQ8 (io), 31 DQ1 (io), 32 DQ9 (io), 33 DQ2 (io), 34 DQ10 (io), 35 DQ3 (io), 36 DQ11 (io), 37 VCC (power), 38 DQ4 (io), 39 DQ12 (io), 40 DQ5 (io), 41 DQ13 (io), 42 DQ6 (io), 43 DQ14 (io), 44 DQ7 (io), 45 DQ15/A-1 (io), 46 GND (power), 47 ~{BYTE} (in), 48 A16 (in)

## M28V440-120N3
designator U?
Low-Voltage 4 Mbit (x8 or x16, Block Erase) Flash Memory; Note: Do Not Use pin number 15 (DU).; Published: 24-Aug-2001; LatestRevisionDate: 17-Jul-2002; LatestRevisionNote: Re-released for DXP Platform.; DatasheetDocument: Jun-1996; PackageDocument: Jul-1998; PackageReference: TSOP48; Publisher: Altium Limited; Code_JEDEC: MO-142-DD
footprint TSOP48 (Shrink Small Outline, Plastic, Thin; 48 Leads; Body Width 18.4 mm; Pitch 0.5 mm)
pins: 1 A15 (in), 2 A14 (in), 3 A13 (in), 4 A12 (in), 5 A11 (in), 6 A10 (in), 7 A9 (in), 8 A8 (in), 9 NC, 10 NC, 11 ~{WE} (in), 12 ~{RP} (in), 13 VPP (power), 14 NC, 15 DU, 16 NC, 17 A17 (in), 18 A7 (in), 19 A6 (in), 20 A5 (in), 21 A4 (in), 22 A3 (in), 23 A2 (in), 24 A1 (in), 25 A0 (in), 26 ~{CE} (in), 27 GND (power), 28 ~{OE} (in), 29 DQ0 (io), 30 DQ8 (io), 31 DQ1 (io), 32 DQ9 (io), 33 DQ2 (io), 34 DQ10 (io), 35 DQ3 (io), 36 DQ11 (io), 37 VCC (power), 38 DQ4 (io), 39 DQ12 (io), 40 DQ5 (io), 41 DQ13 (io), 42 DQ6 (io), 43 DQ14 (io), 44 DQ7 (io), 45 DQ15/A-1 (io), 46 GND (power), 47 ~{BYTE} (in), 48 A16 (in)

## M28V440-120N6
designator U?
Low-Voltage 4 Mbit (x8 or x16, Block Erase) Flash Memory; Note: Do Not Use pin number 15 (DU).; Published: 24-Aug-2001; LatestRevisionDate: 17-Jul-2002; LatestRevisionNote: Re-released for DXP Platform.; DatasheetDocument: Jun-1996; PackageDocument: Jul-1998; PackageReference: TSOP48; Publisher: Altium Limited; Code_JEDEC: MO-142-DD
footprint TSOP48 (Shrink Small Outline, Plastic, Thin; 48 Leads; Body Width 18.4 mm; Pitch 0.5 mm)
pins: 1 A15 (in), 2 A14 (in), 3 A13 (in), 4 A12 (in), 5 A11 (in), 6 A10 (in), 7 A9 (in), 8 A8 (in), 9 NC, 10 NC, 11 ~{WE} (in), 12 ~{RP} (in), 13 VPP (power), 14 NC, 15 DU, 16 NC, 17 A17 (in), 18 A7 (in), 19 A6 (in), 20 A5 (in), 21 A4 (in), 22 A3 (in), 23 A2 (in), 24 A1 (in), 25 A0 (in), 26 ~{CE} (in), 27 GND (power), 28 ~{OE} (in), 29 DQ0 (io), 30 DQ8 (io), 31 DQ1 (io), 32 DQ9 (io), 33 DQ2 (io), 34 DQ10 (io), 35 DQ3 (io), 36 DQ11 (io), 37 VCC (power), 38 DQ4 (io), 39 DQ12 (io), 40 DQ5 (io), 41 DQ13 (io), 42 DQ6 (io), 43 DQ14 (io), 44 DQ7 (io), 45 DQ15/A-1 (io), 46 GND (power), 47 ~{BYTE} (in), 48 A16 (in)

## M28V440-150M1
designator U?
Low-Voltage 4 Mbit (x8 or x16, Block Erase) Flash Memory; Note: Do Not Use pin number 2 (DU).; Published: 24-Aug-2001; LatestRevisionDate: 17-Jul-2002; LatestRevisionNote: Re-released for DXP Platform.; DatasheetDocument: Jun-1996; PackageReference: SO44; Publisher: Altium Limited
footprint SO44 (Small Outline, Plastic; 44 Leads; Body Width 13.3 mm; Pitch 1.27 mm)
pins: 1 VPP (power), 2 DU, 3 A17 (in), 4 A7 (in), 5 A6 (in), 6 A5 (in), 7 A4 (in), 8 A3 (in), 9 A2 (in), 10 A1 (in), 11 A0 (in), 12 ~{CE} (in), 13 GND (power), 14 ~{OE} (in), 15 DQ0 (io), 16 DQ8 (io), 17 DQ1 (io), 18 DQ9 (io), 19 DQ2 (io), 20 DQ10 (io), 21 DQ3 (io), 22 DQ11 (io), 23 VCC (power), 24 DQ4 (io), 25 DQ12 (io), 26 DQ5 (io), 27 DQ13 (io), 28 DQ6 (io), 29 DQ14 (io), 30 DQ7 (io), 31 DQ15/A-1 (io), 32 GND (power), 33 ~{BYTE} (in), 34 A16 (in), 35 A15 (in), 36 A14 (in), 37 A13 (in), 38 A12 (in), 39 A11 (in), 40 A10 (in), 41 A9 (in), 42 A8 (in), 43 ~{WE} (in), 44 ~{RP} (in)

## M28V440-150M3
designator U?
Low-Voltage 4 Mbit (x8 or x16, Block Erase) Flash Memory; Note: Do Not Use pin number 2 (DU).; Published: 24-Aug-2001; LatestRevisionDate: 17-Jul-2002; LatestRevisionNote: Re-released for DXP Platform.; DatasheetDocument: Jun-1996; PackageReference: SO44; Publisher: Altium Limited
footprint SO44 (Small Outline, Plastic; 44 Leads; Body Width 13.3 mm; Pitch 1.27 mm)
pins: 1 VPP (power), 2 DU, 3 A17 (in), 4 A7 (in), 5 A6 (in), 6 A5 (in), 7 A4 (in), 8 A3 (in), 9 A2 (in), 10 A1 (in), 11 A0 (in), 12 ~{CE} (in), 13 GND (power), 14 ~{OE} (in), 15 DQ0 (io), 16 DQ8 (io), 17 DQ1 (io), 18 DQ9 (io), 19 DQ2 (io), 20 DQ10 (io), 21 DQ3 (io), 22 DQ11 (io), 23 VCC (power), 24 DQ4 (io), 25 DQ12 (io), 26 DQ5 (io), 27 DQ13 (io), 28 DQ6 (io), 29 DQ14 (io), 30 DQ7 (io), 31 DQ15/A-1 (io), 32 GND (power), 33 ~{BYTE} (in), 34 A16 (in), 35 A15 (in), 36 A14 (in), 37 A13 (in), 38 A12 (in), 39 A11 (in), 40 A10 (in), 41 A9 (in), 42 A8 (in), 43 ~{WE} (in), 44 ~{RP} (in)

## M28V440-150M6
designator U?
Low-Voltage 4 Mbit (x8 or x16, Block Erase) Flash Memory; Note: Do Not Use pin number 2 (DU).; Published: 24-Aug-2001; LatestRevisionDate: 17-Jul-2002; LatestRevisionNote: Re-released for DXP Platform.; DatasheetDocument: Jun-1996; PackageReference: SO44; Publisher: Altium Limited
footprint SO44 (Small Outline, Plastic; 44 Leads; Body Width 13.3 mm; Pitch 1.27 mm)
pins: 1 VPP (power), 2 DU, 3 A17 (in), 4 A7 (in), 5 A6 (in), 6 A5 (in), 7 A4 (in), 8 A3 (in), 9 A2 (in), 10 A1 (in), 11 A0 (in), 12 ~{CE} (in), 13 GND (power), 14 ~{OE} (in), 15 DQ0 (io), 16 DQ8 (io), 17 DQ1 (io), 18 DQ9 (io), 19 DQ2 (io), 20 DQ10 (io), 21 DQ3 (io), 22 DQ11 (io), 23 VCC (power), 24 DQ4 (io), 25 DQ12 (io), 26 DQ5 (io), 27 DQ13 (io), 28 DQ6 (io), 29 DQ14 (io), 30 DQ7 (io), 31 DQ15/A-1 (io), 32 GND (power), 33 ~{BYTE} (in), 34 A16 (in), 35 A15 (in), 36 A14 (in), 37 A13 (in), 38 A12 (in), 39 A11 (in), 40 A10 (in), 41 A9 (in), 42 A8 (in), 43 ~{WE} (in), 44 ~{RP} (in)

## M28V440-150N1
designator U?
Low-Voltage 4 Mbit (x8 or x16, Block Erase) Flash Memory; Note: Do Not Use pin number 15 (DU).; Published: 24-Aug-2001; LatestRevisionDate: 17-Jul-2002; LatestRevisionNote: Re-released for DXP Platform.; DatasheetDocument: Jun-1996; PackageDocument: Jul-1998; PackageReference: TSOP48; Publisher: Altium Limited; Code_JEDEC: MO-142-DD
footprint TSOP48 (Shrink Small Outline, Plastic, Thin; 48 Leads; Body Width 18.4 mm; Pitch 0.5 mm)
pins: 1 A15 (in), 2 A14 (in), 3 A13 (in), 4 A12 (in), 5 A11 (in), 6 A10 (in), 7 A9 (in), 8 A8 (in), 9 NC, 10 NC, 11 ~{WE} (in), 12 ~{RP} (in), 13 VPP (power), 14 NC, 15 DU, 16 NC, 17 A17 (in), 18 A7 (in), 19 A6 (in), 20 A5 (in), 21 A4 (in), 22 A3 (in), 23 A2 (in), 24 A1 (in), 25 A0 (in), 26 ~{CE} (in), 27 GND (power), 28 ~{OE} (in), 29 DQ0 (io), 30 DQ8 (io), 31 DQ1 (io), 32 DQ9 (io), 33 DQ2 (io), 34 DQ10 (io), 35 DQ3 (io), 36 DQ11 (io), 37 VCC (power), 38 DQ4 (io), 39 DQ12 (io), 40 DQ5 (io), 41 DQ13 (io), 42 DQ6 (io), 43 DQ14 (io), 44 DQ7 (io), 45 DQ15/A-1 (io), 46 GND (power), 47 ~{BYTE} (in), 48 A16 (in)

## M28V440-150N3
designator U?
Low-Voltage 4 Mbit (x8 or x16, Block Erase) Flash Memory; Note: Do Not Use pin number 15 (DU).; Published: 24-Aug-2001; LatestRevisionDate: 17-Jul-2002; LatestRevisionNote: Re-released for DXP Platform.; DatasheetDocument: Jun-1996; PackageDocument: Jul-1998; PackageReference: TSOP48; Publisher: Altium Limited; Code_JEDEC: MO-142-DD
footprint TSOP48 (Shrink Small Outline, Plastic, Thin; 48 Leads; Body Width 18.4 mm; Pitch 0.5 mm)
pins: 1 A15 (in), 2 A14 (in), 3 A13 (in), 4 A12 (in), 5 A11 (in), 6 A10 (in), 7 A9 (in), 8 A8 (in), 9 NC, 10 NC, 11 ~{WE} (in), 12 ~{RP} (in), 13 VPP (power), 14 NC, 15 DU, 16 NC, 17 A17 (in), 18 A7 (in), 19 A6 (in), 20 A5 (in), 21 A4 (in), 22 A3 (in), 23 A2 (in), 24 A1 (in), 25 A0 (in), 26 ~{CE} (in), 27 GND (power), 28 ~{OE} (in), 29 DQ0 (io), 30 DQ8 (io), 31 DQ1 (io), 32 DQ9 (io), 33 DQ2 (io), 34 DQ10 (io), 35 DQ3 (io), 36 DQ11 (io), 37 VCC (power), 38 DQ4 (io), 39 DQ12 (io), 40 DQ5 (io), 41 DQ13 (io), 42 DQ6 (io), 43 DQ14 (io), 44 DQ7 (io), 45 DQ15/A-1 (io), 46 GND (power), 47 ~{BYTE} (in), 48 A16 (in)

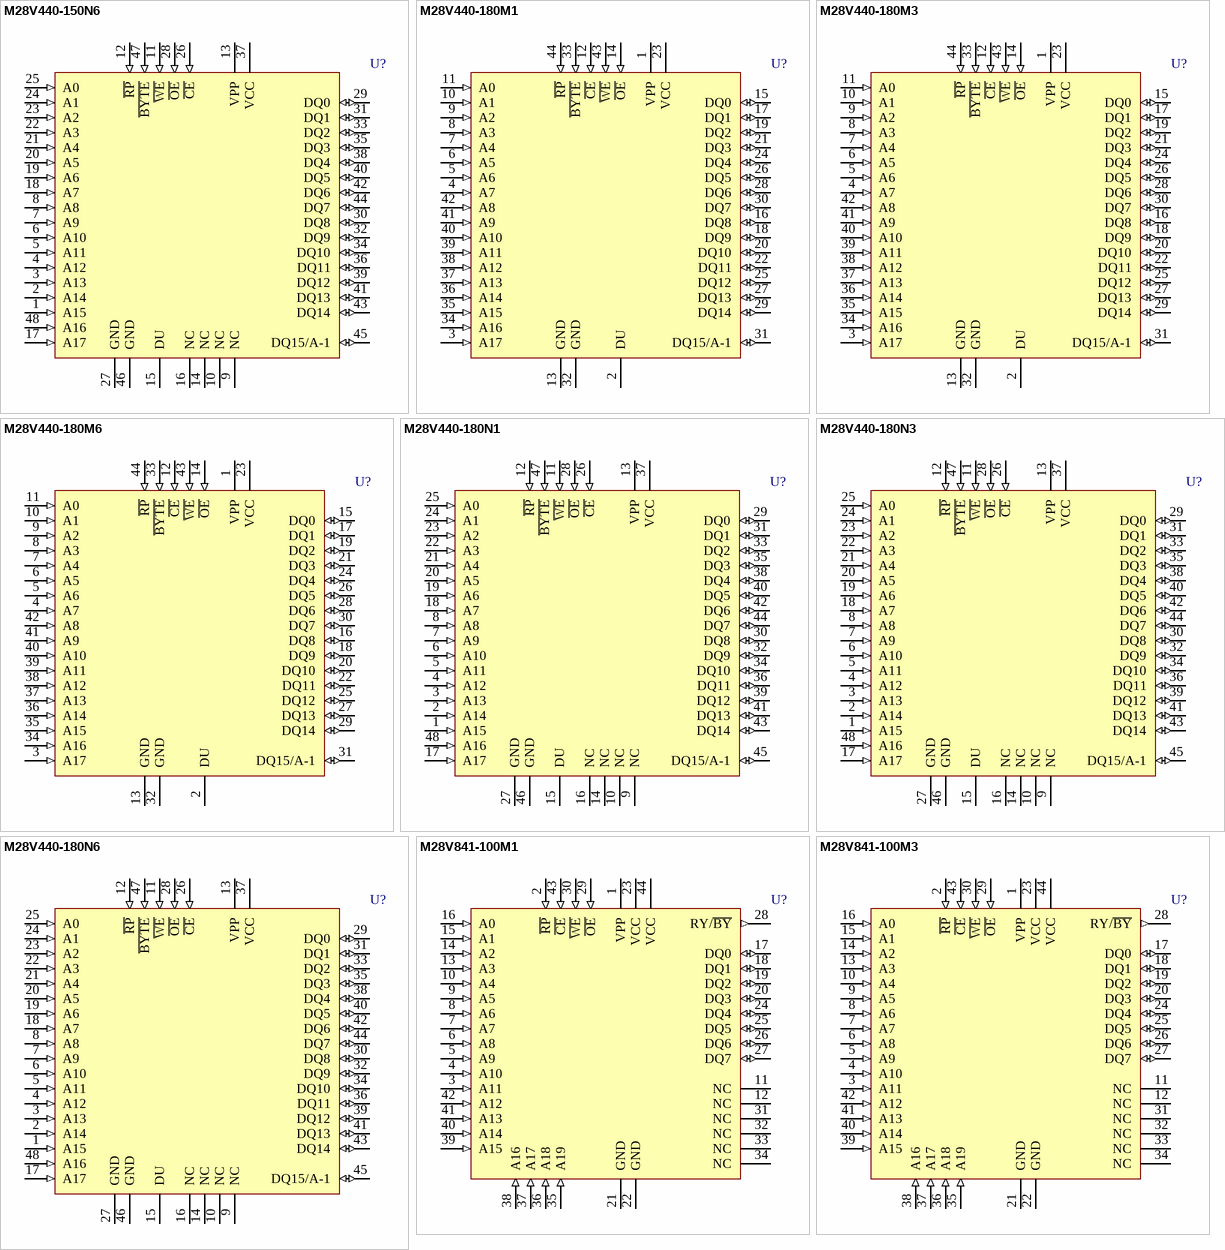
[diagram p47: symbols M28V440-150N6 to M28V841-100M3]

## M28V440-150N6
designator U?
Low-Voltage 4 Mbit (x8 or x16, Block Erase) Flash Memory; Note: Do Not Use pin number 15 (DU).; Published: 24-Aug-2001; LatestRevisionDate: 17-Jul-2002; LatestRevisionNote: Re-released for DXP Platform.; DatasheetDocument: Jun-1996; PackageDocument: Jul-1998; PackageReference: TSOP48; Publisher: Altium Limited; Code_JEDEC: MO-142-DD
footprint TSOP48 (Shrink Small Outline, Plastic, Thin; 48 Leads; Body Width 18.4 mm; Pitch 0.5 mm)
pins: 1 A15 (in), 2 A14 (in), 3 A13 (in), 4 A12 (in), 5 A11 (in), 6 A10 (in), 7 A9 (in), 8 A8 (in), 9 NC, 10 NC, 11 ~{WE} (in), 12 ~{RP} (in), 13 VPP (power), 14 NC, 15 DU, 16 NC, 17 A17 (in), 18 A7 (in), 19 A6 (in), 20 A5 (in), 21 A4 (in), 22 A3 (in), 23 A2 (in), 24 A1 (in), 25 A0 (in), 26 ~{CE} (in), 27 GND (power), 28 ~{OE} (in), 29 DQ0 (io), 30 DQ8 (io), 31 DQ1 (io), 32 DQ9 (io), 33 DQ2 (io), 34 DQ10 (io), 35 DQ3 (io), 36 DQ11 (io), 37 VCC (power), 38 DQ4 (io), 39 DQ12 (io), 40 DQ5 (io), 41 DQ13 (io), 42 DQ6 (io), 43 DQ14 (io), 44 DQ7 (io), 45 DQ15/A-1 (io), 46 GND (power), 47 ~{BYTE} (in), 48 A16 (in)

## M28V440-180M1
designator U?
Low-Voltage 4 Mbit (x8 or x16, Block Erase) Flash Memory; Note: Do Not Use pin number 2 (DU).; Published: 24-Aug-2001; LatestRevisionDate: 17-Jul-2002; LatestRevisionNote: Re-released for DXP Platform.; DatasheetDocument: Jun-1996; PackageReference: SO44; Publisher: Altium Limited
footprint SO44 (Small Outline, Plastic; 44 Leads; Body Width 13.3 mm; Pitch 1.27 mm)
pins: 1 VPP (power), 2 DU, 3 A17 (in), 4 A7 (in), 5 A6 (in), 6 A5 (in), 7 A4 (in), 8 A3 (in), 9 A2 (in), 10 A1 (in), 11 A0 (in), 12 ~{CE} (in), 13 GND (power), 14 ~{OE} (in), 15 DQ0 (io), 16 DQ8 (io), 17 DQ1 (io), 18 DQ9 (io), 19 DQ2 (io), 20 DQ10 (io), 21 DQ3 (io), 22 DQ11 (io), 23 VCC (power), 24 DQ4 (io), 25 DQ12 (io), 26 DQ5 (io), 27 DQ13 (io), 28 DQ6 (io), 29 DQ14 (io), 30 DQ7 (io), 31 DQ15/A-1 (io), 32 GND (power), 33 ~{BYTE} (in), 34 A16 (in), 35 A15 (in), 36 A14 (in), 37 A13 (in), 38 A12 (in), 39 A11 (in), 40 A10 (in), 41 A9 (in), 42 A8 (in), 43 ~{WE} (in), 44 ~{RP} (in)

## M28V440-180M3
designator U?
Low-Voltage 4 Mbit (x8 or x16, Block Erase) Flash Memory; Note: Do Not Use pin number 2 (DU).; Published: 24-Aug-2001; LatestRevisionDate: 17-Jul-2002; LatestRevisionNote: Re-released for DXP Platform.; DatasheetDocument: Jun-1996; PackageReference: SO44; Publisher: Altium Limited
footprint SO44 (Small Outline, Plastic; 44 Leads; Body Width 13.3 mm; Pitch 1.27 mm)
pins: 1 VPP (power), 2 DU, 3 A17 (in), 4 A7 (in), 5 A6 (in), 6 A5 (in), 7 A4 (in), 8 A3 (in), 9 A2 (in), 10 A1 (in), 11 A0 (in), 12 ~{CE} (in), 13 GND (power), 14 ~{OE} (in), 15 DQ0 (io), 16 DQ8 (io), 17 DQ1 (io), 18 DQ9 (io), 19 DQ2 (io), 20 DQ10 (io), 21 DQ3 (io), 22 DQ11 (io), 23 VCC (power), 24 DQ4 (io), 25 DQ12 (io), 26 DQ5 (io), 27 DQ13 (io), 28 DQ6 (io), 29 DQ14 (io), 30 DQ7 (io), 31 DQ15/A-1 (io), 32 GND (power), 33 ~{BYTE} (in), 34 A16 (in), 35 A15 (in), 36 A14 (in), 37 A13 (in), 38 A12 (in), 39 A11 (in), 40 A10 (in), 41 A9 (in), 42 A8 (in), 43 ~{WE} (in), 44 ~{RP} (in)

## M28V440-180M6
designator U?
Low-Voltage 4 Mbit (x8 or x16, Block Erase) Flash Memory; Note: Do Not Use pin number 2 (DU).; Published: 24-Aug-2001; LatestRevisionDate: 17-Jul-2002; LatestRevisionNote: Re-released for DXP Platform.; DatasheetDocument: Jun-1996; PackageReference: SO44; Publisher: Altium Limited
footprint SO44 (Small Outline, Plastic; 44 Leads; Body Width 13.3 mm; Pitch 1.27 mm)
pins: 1 VPP (power), 2 DU, 3 A17 (in), 4 A7 (in), 5 A6 (in), 6 A5 (in), 7 A4 (in), 8 A3 (in), 9 A2 (in), 10 A1 (in), 11 A0 (in), 12 ~{CE} (in), 13 GND (power), 14 ~{OE} (in), 15 DQ0 (io), 16 DQ8 (io), 17 DQ1 (io), 18 DQ9 (io), 19 DQ2 (io), 20 DQ10 (io), 21 DQ3 (io), 22 DQ11 (io), 23 VCC (power), 24 DQ4 (io), 25 DQ12 (io), 26 DQ5 (io), 27 DQ13 (io), 28 DQ6 (io), 29 DQ14 (io), 30 DQ7 (io), 31 DQ15/A-1 (io), 32 GND (power), 33 ~{BYTE} (in), 34 A16 (in), 35 A15 (in), 36 A14 (in), 37 A13 (in), 38 A12 (in), 39 A11 (in), 40 A10 (in), 41 A9 (in), 42 A8 (in), 43 ~{WE} (in), 44 ~{RP} (in)

## M28V440-180N1
designator U?
Low-Voltage 4 Mbit (x8 or x16, Block Erase) Flash Memory; Note: Do Not Use pin number 15 (DU).; Published: 24-Aug-2001; LatestRevisionDate: 17-Jul-2002; LatestRevisionNote: Re-released for DXP Platform.; DatasheetDocument: Jun-1996; PackageDocument: Jul-1998; PackageReference: TSOP48; Publisher: Altium Limited; Code_JEDEC: MO-142-DD
footprint TSOP48 (Shrink Small Outline, Plastic, Thin; 48 Leads; Body Width 18.4 mm; Pitch 0.5 mm)
pins: 1 A15 (in), 2 A14 (in), 3 A13 (in), 4 A12 (in), 5 A11 (in), 6 A10 (in), 7 A9 (in), 8 A8 (in), 9 NC, 10 NC, 11 ~{WE} (in), 12 ~{RP} (in), 13 VPP (power), 14 NC, 15 DU, 16 NC, 17 A17 (in), 18 A7 (in), 19 A6 (in), 20 A5 (in), 21 A4 (in), 22 A3 (in), 23 A2 (in), 24 A1 (in), 25 A0 (in), 26 ~{CE} (in), 27 GND (power), 28 ~{OE} (in), 29 DQ0 (io), 30 DQ8 (io), 31 DQ1 (io), 32 DQ9 (io), 33 DQ2 (io), 34 DQ10 (io), 35 DQ3 (io), 36 DQ11 (io), 37 VCC (power), 38 DQ4 (io), 39 DQ12 (io), 40 DQ5 (io), 41 DQ13 (io), 42 DQ6 (io), 43 DQ14 (io), 44 DQ7 (io), 45 DQ15/A-1 (io), 46 GND (power), 47 ~{BYTE} (in), 48 A16 (in)

## M28V440-180N3
designator U?
Low-Voltage 4 Mbit (x8 or x16, Block Erase) Flash Memory; Note: Do Not Use pin number 15 (DU).; Published: 24-Aug-2001; LatestRevisionDate: 17-Jul-2002; LatestRevisionNote: Re-released for DXP Platform.; DatasheetDocument: Jun-1996; PackageDocument: Jul-1998; PackageReference: TSOP48; Publisher: Altium Limited; Code_JEDEC: MO-142-DD
footprint TSOP48 (Shrink Small Outline, Plastic, Thin; 48 Leads; Body Width 18.4 mm; Pitch 0.5 mm)
pins: 1 A15 (in), 2 A14 (in), 3 A13 (in), 4 A12 (in), 5 A11 (in), 6 A10 (in), 7 A9 (in), 8 A8 (in), 9 NC, 10 NC, 11 ~{WE} (in), 12 ~{RP} (in), 13 VPP (power), 14 NC, 15 DU, 16 NC, 17 A17 (in), 18 A7 (in), 19 A6 (in), 20 A5 (in), 21 A4 (in), 22 A3 (in), 23 A2 (in), 24 A1 (in), 25 A0 (in), 26 ~{CE} (in), 27 GND (power), 28 ~{OE} (in), 29 DQ0 (io), 30 DQ8 (io), 31 DQ1 (io), 32 DQ9 (io), 33 DQ2 (io), 34 DQ10 (io), 35 DQ3 (io), 36 DQ11 (io), 37 VCC (power), 38 DQ4 (io), 39 DQ12 (io), 40 DQ5 (io), 41 DQ13 (io), 42 DQ6 (io), 43 DQ14 (io), 44 DQ7 (io), 45 DQ15/A-1 (io), 46 GND (power), 47 ~{BYTE} (in), 48 A16 (in)

## M28V440-180N6
designator U?
Low-Voltage 4 Mbit (x8 or x16, Block Erase) Flash Memory; Note: Do Not Use pin number 15 (DU).; Published: 24-Aug-2001; LatestRevisionDate: 17-Jul-2002; LatestRevisionNote: Re-released for DXP Platform.; DatasheetDocument: Jun-1996; PackageDocument: Jul-1998; PackageReference: TSOP48; Publisher: Altium Limited; Code_JEDEC: MO-142-DD
footprint TSOP48 (Shrink Small Outline, Plastic, Thin; 48 Leads; Body Width 18.4 mm; Pitch 0.5 mm)
pins: 1 A15 (in), 2 A14 (in), 3 A13 (in), 4 A12 (in), 5 A11 (in), 6 A10 (in), 7 A9 (in), 8 A8 (in), 9 NC, 10 NC, 11 ~{WE} (in), 12 ~{RP} (in), 13 VPP (power), 14 NC, 15 DU, 16 NC, 17 A17 (in), 18 A7 (in), 19 A6 (in), 20 A5 (in), 21 A4 (in), 22 A3 (in), 23 A2 (in), 24 A1 (in), 25 A0 (in), 26 ~{CE} (in), 27 GND (power), 28 ~{OE} (in), 29 DQ0 (io), 30 DQ8 (io), 31 DQ1 (io), 32 DQ9 (io), 33 DQ2 (io), 34 DQ10 (io), 35 DQ3 (io), 36 DQ11 (io), 37 VCC (power), 38 DQ4 (io), 39 DQ12 (io), 40 DQ5 (io), 41 DQ13 (io), 42 DQ6 (io), 43 DQ14 (io), 44 DQ7 (io), 45 DQ15/A-1 (io), 46 GND (power), 47 ~{BYTE} (in), 48 A16 (in)

## M28V841-100M1
designator U?
Low-Voltage 8 Mbit (x8, Sector Erase) Flash Memory; Published: 24-Aug-2001; LatestRevisionDate: 17-Jul-2002; LatestRevisionNote: Re-released for DXP Platform.; DatasheetDocument: Jan-1997; PackageReference: SO44; Publisher: Altium Limited
footprint SO44 (Small Outline, Plastic; 44 Leads; Body Width 13.3 mm; Pitch 1.27 mm)
pins: 1 VPP (power), 2 ~{RP} (in), 3 A11 (in), 4 A10 (in), 5 A9 (in), 6 A8 (in), 7 A7 (in), 8 A6 (in), 9 A5 (in), 10 A4 (in), 11 NC, 12 NC, 13 A3 (in), 14 A2 (in), 15 A1 (in), 16 A0 (in), 17 DQ0 (io), 18 DQ1 (io), 19 DQ2 (io), 20 DQ3 (io), 21 GND (power), 22 GND (power), 23 VCC (power), 24 DQ4 (io), 25 DQ5 (io), 26 DQ6 (io), 27 DQ7 (io), 28 RY/~{BY} (out), 29 ~{OE} (in), 30 ~{WE} (in), 31 NC, 32 NC, 33 NC, 34 NC, 35 A19 (in), 36 A18 (in), 37 A17 (in), 38 A16 (in), 39 A15 (in), 40 A14 (in), 41 A13 (in), 42 A12 (in), 43 ~{CE} (in), 44 VCC (power)

## M28V841-100M3
designator U?
Low-Voltage 8 Mbit (x8, Sector Erase) Flash Memory; Published: 24-Aug-2001; LatestRevisionDate: 17-Jul-2002; LatestRevisionNote: Re-released for DXP Platform.; DatasheetDocument: Jan-1997; PackageReference: SO44; Publisher: Altium Limited
footprint SO44 (Small Outline, Plastic; 44 Leads; Body Width 13.3 mm; Pitch 1.27 mm)
pins: 1 VPP (power), 2 ~{RP} (in), 3 A11 (in), 4 A10 (in), 5 A9 (in), 6 A8 (in), 7 A7 (in), 8 A6 (in), 9 A5 (in), 10 A4 (in), 11 NC, 12 NC, 13 A3 (in), 14 A2 (in), 15 A1 (in), 16 A0 (in), 17 DQ0 (io), 18 DQ1 (io), 19 DQ2 (io), 20 DQ3 (io), 21 GND (power), 22 GND (power), 23 VCC (power), 24 DQ4 (io), 25 DQ5 (io), 26 DQ6 (io), 27 DQ7 (io), 28 RY/~{BY} (out), 29 ~{OE} (in), 30 ~{WE} (in), 31 NC, 32 NC, 33 NC, 34 NC, 35 A19 (in), 36 A18 (in), 37 A17 (in), 38 A16 (in), 39 A15 (in), 40 A14 (in), 41 A13 (in), 42 A12 (in), 43 ~{CE} (in), 44 VCC (power)

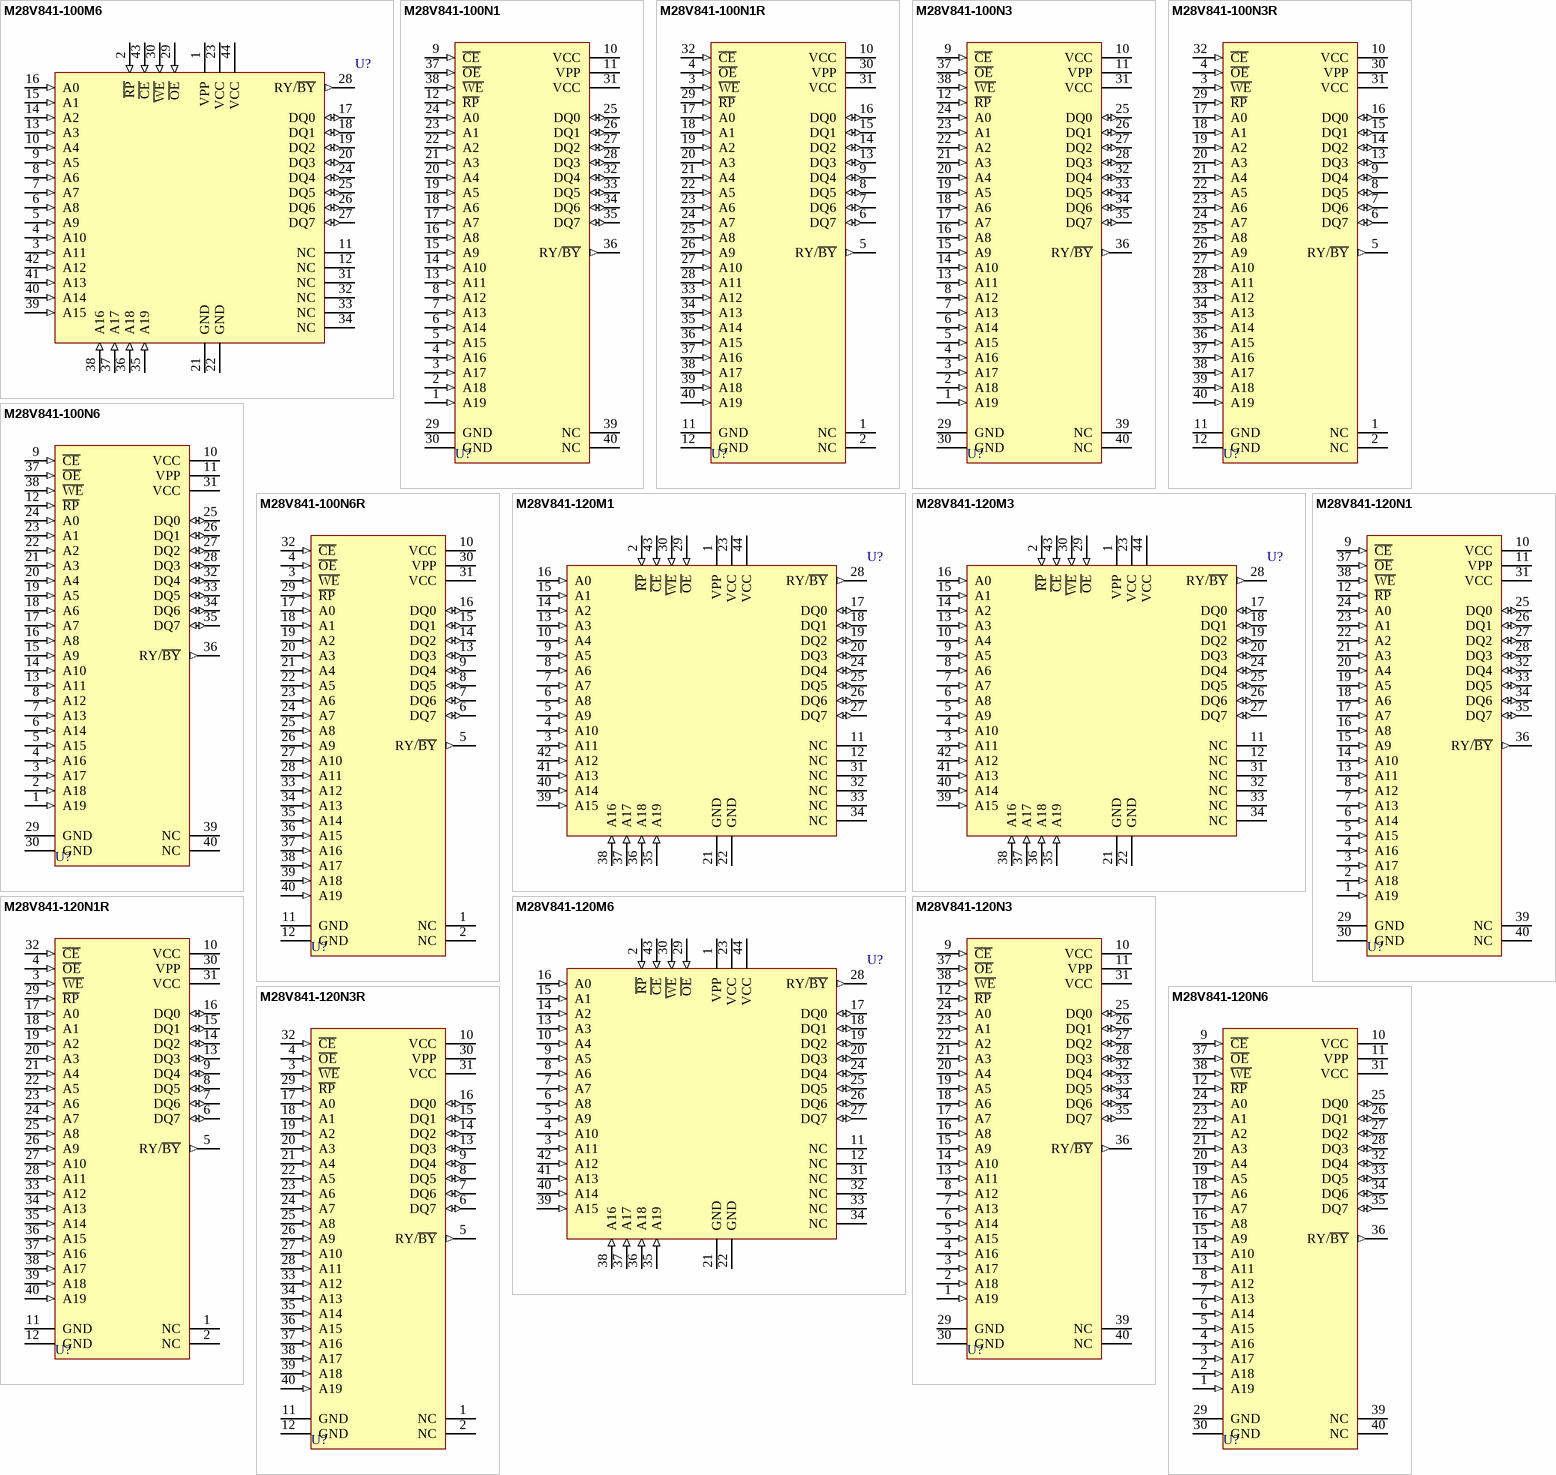
[diagram p48: symbols M28V841-100M6 to M28V841-120N6]

## M28V841-100M6
designator U?
Low-Voltage 8 Mbit (x8, Sector Erase) Flash Memory; Published: 24-Aug-2001; LatestRevisionDate: 17-Jul-2002; LatestRevisionNote: Re-released for DXP Platform.; DatasheetDocument: Jan-1997; PackageReference: SO44; Publisher: Altium Limited
footprint SO44 (Small Outline, Plastic; 44 Leads; Body Width 13.3 mm; Pitch 1.27 mm)
pins: 1 VPP (power), 2 ~{RP} (in), 3 A11 (in), 4 A10 (in), 5 A9 (in), 6 A8 (in), 7 A7 (in), 8 A6 (in), 9 A5 (in), 10 A4 (in), 11 NC, 12 NC, 13 A3 (in), 14 A2 (in), 15 A1 (in), 16 A0 (in), 17 DQ0 (io), 18 DQ1 (io), 19 DQ2 (io), 20 DQ3 (io), 21 GND (power), 22 GND (power), 23 VCC (power), 24 DQ4 (io), 25 DQ5 (io), 26 DQ6 (io), 27 DQ7 (io), 28 RY/~{BY} (out), 29 ~{OE} (in), 30 ~{WE} (in), 31 NC, 32 NC, 33 NC, 34 NC, 35 A19 (in), 36 A18 (in), 37 A17 (in), 38 A16 (in), 39 A15 (in), 40 A14 (in), 41 A13 (in), 42 A12 (in), 43 ~{CE} (in), 44 VCC (power)

## M28V841-100N1
designator U?
Low-Voltage 8 Mbit (x8, Sector Erase) Flash Memory; Published: 24-Aug-2001; LatestRevisionDate: 17-Jul-2002; LatestRevisionNote: Re-released for DXP Platform.; DatasheetDocument: Jan-1997; PackageDocument: Jul-1998; PackageReference: TSOP40A; Publisher: Altium Limited; Code_JEDEC: MO-142-CD
footprint TSOP40A (Shrink Small Outline, Plastic, Thin; 40 Leads; Body Width 18.4 mm; Pitch 0.5 mm)
pins: 1 A19 (in), 2 A18 (in), 3 A17 (in), 4 A16 (in), 5 A15 (in), 6 A14 (in), 7 A13 (in), 8 A12 (in), 9 ~{CE} (in), 10 VCC (power), 11 VPP (power), 12 ~{RP} (in), 13 A11 (in), 14 A10 (in), 15 A9 (in), 16 A8 (in), 17 A7 (in), 18 A6 (in), 19 A5 (in), 20 A4 (in), 21 A3 (in), 22 A2 (in), 23 A1 (in), 24 A0 (in), 25 DQ0 (io), 26 DQ1 (io), 27 DQ2 (io), 28 DQ3 (io), 29 GND (power), 30 GND (power), 31 VCC (power), 32 DQ4 (io), 33 DQ5 (io), 34 DQ6 (io), 35 DQ7 (io), 36 RY/~{BY} (out), 37 ~{OE} (in), 38 ~{WE} (in), 39 NC, 40 NC

## M28V841-100N1R
designator U?
Low-Voltage 8 Mbit (x8, Sector Erase) Flash Memory; Published: 24-Aug-2001; LatestRevisionDate: 17-Jul-2002; LatestRevisionNote: Re-released for DXP Platform.; DatasheetDocument: Jan-1997; PackageDocument: Jul-1998; PackageReference: TSOP40A; Publisher: Altium Limited; Code_JEDEC: MO-142-CD
footprint TSOP40A (Shrink Small Outline, Plastic, Thin; 40 Leads; Body Width 18.4 mm; Pitch 0.5 mm)
pins: 1 NC, 2 NC, 3 ~{WE} (in), 4 ~{OE} (in), 5 RY/~{BY} (out), 6 DQ7 (io), 7 DQ6 (io), 8 DQ5 (io), 9 DQ4 (io), 10 VCC (power), 11 GND (power), 12 GND (power), 13 DQ3 (io), 14 DQ2 (io), 15 DQ1 (io), 16 DQ0 (io), 17 A0 (in), 18 A1 (in), 19 A2 (in), 20 A3 (in), 21 A4 (in), 22 A5 (in), 23 A6 (in), 24 A7 (in), 25 A8 (in), 26 A9 (in), 27 A10 (in), 28 A11 (in), 29 ~{RP} (in), 30 VPP (power), 31 VCC (power), 32 ~{CE} (in), 33 A12 (in), 34 A13 (in), 35 A14 (in), 36 A15 (in), 37 A16 (in), 38 A17 (in), 39 A18 (in), 40 A19 (in)

## M28V841-100N3
designator U?
Low-Voltage 8 Mbit (x8, Sector Erase) Flash Memory; Published: 24-Aug-2001; LatestRevisionDate: 17-Jul-2002; LatestRevisionNote: Re-released for DXP Platform.; DatasheetDocument: Jan-1997; PackageDocument: Jul-1998; PackageReference: TSOP40A; Publisher: Altium Limited; Code_JEDEC: MO-142-CD
footprint TSOP40A (Shrink Small Outline, Plastic, Thin; 40 Leads; Body Width 18.4 mm; Pitch 0.5 mm)
pins: 1 A19 (in), 2 A18 (in), 3 A17 (in), 4 A16 (in), 5 A15 (in), 6 A14 (in), 7 A13 (in), 8 A12 (in), 9 ~{CE} (in), 10 VCC (power), 11 VPP (power), 12 ~{RP} (in), 13 A11 (in), 14 A10 (in), 15 A9 (in), 16 A8 (in), 17 A7 (in), 18 A6 (in), 19 A5 (in), 20 A4 (in), 21 A3 (in), 22 A2 (in), 23 A1 (in), 24 A0 (in), 25 DQ0 (io), 26 DQ1 (io), 27 DQ2 (io), 28 DQ3 (io), 29 GND (power), 30 GND (power), 31 VCC (power), 32 DQ4 (io), 33 DQ5 (io), 34 DQ6 (io), 35 DQ7 (io), 36 RY/~{BY} (out), 37 ~{OE} (in), 38 ~{WE} (in), 39 NC, 40 NC

## M28V841-100N3R
designator U?
Low-Voltage 8 Mbit (x8, Sector Erase) Flash Memory; Published: 24-Aug-2001; LatestRevisionDate: 17-Jul-2002; LatestRevisionNote: Re-released for DXP Platform.; DatasheetDocument: Jan-1997; PackageDocument: Jul-1998; PackageReference: TSOP40A; Publisher: Altium Limited; Code_JEDEC: MO-142-CD
footprint TSOP40A (Shrink Small Outline, Plastic, Thin; 40 Leads; Body Width 18.4 mm; Pitch 0.5 mm)
pins: 1 NC, 2 NC, 3 ~{WE} (in), 4 ~{OE} (in), 5 RY/~{BY} (out), 6 DQ7 (io), 7 DQ6 (io), 8 DQ5 (io), 9 DQ4 (io), 10 VCC (power), 11 GND (power), 12 GND (power), 13 DQ3 (io), 14 DQ2 (io), 15 DQ1 (io), 16 DQ0 (io), 17 A0 (in), 18 A1 (in), 19 A2 (in), 20 A3 (in), 21 A4 (in), 22 A5 (in), 23 A6 (in), 24 A7 (in), 25 A8 (in), 26 A9 (in), 27 A10 (in), 28 A11 (in), 29 ~{RP} (in), 30 VPP (power), 31 VCC (power), 32 ~{CE} (in), 33 A12 (in), 34 A13 (in), 35 A14 (in), 36 A15 (in), 37 A16 (in), 38 A17 (in), 39 A18 (in), 40 A19 (in)

## M28V841-100N6
designator U?
Low-Voltage 8 Mbit (x8, Sector Erase) Flash Memory; Published: 24-Aug-2001; LatestRevisionDate: 17-Jul-2002; LatestRevisionNote: Re-released for DXP Platform.; DatasheetDocument: Jan-1997; PackageDocument: Jul-1998; PackageReference: TSOP40A; Publisher: Altium Limited; Code_JEDEC: MO-142-CD
footprint TSOP40A (Shrink Small Outline, Plastic, Thin; 40 Leads; Body Width 18.4 mm; Pitch 0.5 mm)
pins: 1 A19 (in), 2 A18 (in), 3 A17 (in), 4 A16 (in), 5 A15 (in), 6 A14 (in), 7 A13 (in), 8 A12 (in), 9 ~{CE} (in), 10 VCC (power), 11 VPP (power), 12 ~{RP} (in), 13 A11 (in), 14 A10 (in), 15 A9 (in), 16 A8 (in), 17 A7 (in), 18 A6 (in), 19 A5 (in), 20 A4 (in), 21 A3 (in), 22 A2 (in), 23 A1 (in), 24 A0 (in), 25 DQ0 (io), 26 DQ1 (io), 27 DQ2 (io), 28 DQ3 (io), 29 GND (power), 30 GND (power), 31 VCC (power), 32 DQ4 (io), 33 DQ5 (io), 34 DQ6 (io), 35 DQ7 (io), 36 RY/~{BY} (out), 37 ~{OE} (in), 38 ~{WE} (in), 39 NC, 40 NC

## M28V841-100N6R
designator U?
Low-Voltage 8 Mbit (x8, Sector Erase) Flash Memory; Published: 24-Aug-2001; LatestRevisionDate: 17-Jul-2002; LatestRevisionNote: Re-released for DXP Platform.; DatasheetDocument: Jan-1997; PackageDocument: Jul-1998; PackageReference: TSOP40A; Publisher: Altium Limited; Code_JEDEC: MO-142-CD
footprint TSOP40A (Shrink Small Outline, Plastic, Thin; 40 Leads; Body Width 18.4 mm; Pitch 0.5 mm)
pins: 1 NC, 2 NC, 3 ~{WE} (in), 4 ~{OE} (in), 5 RY/~{BY} (out), 6 DQ7 (io), 7 DQ6 (io), 8 DQ5 (io), 9 DQ4 (io), 10 VCC (power), 11 GND (power), 12 GND (power), 13 DQ3 (io), 14 DQ2 (io), 15 DQ1 (io), 16 DQ0 (io), 17 A0 (in), 18 A1 (in), 19 A2 (in), 20 A3 (in), 21 A4 (in), 22 A5 (in), 23 A6 (in), 24 A7 (in), 25 A8 (in), 26 A9 (in), 27 A10 (in), 28 A11 (in), 29 ~{RP} (in), 30 VPP (power), 31 VCC (power), 32 ~{CE} (in), 33 A12 (in), 34 A13 (in), 35 A14 (in), 36 A15 (in), 37 A16 (in), 38 A17 (in), 39 A18 (in), 40 A19 (in)

## M28V841-120M1
designator U?
Low-Voltage 8 Mbit (x8, Sector Erase) Flash Memory; Published: 24-Aug-2001; LatestRevisionDate: 17-Jul-2002; LatestRevisionNote: Re-released for DXP Platform.; DatasheetDocument: Jan-1997; PackageReference: SO44; Publisher: Altium Limited
footprint SO44 (Small Outline, Plastic; 44 Leads; Body Width 13.3 mm; Pitch 1.27 mm)
pins: 1 VPP (power), 2 ~{RP} (in), 3 A11 (in), 4 A10 (in), 5 A9 (in), 6 A8 (in), 7 A7 (in), 8 A6 (in), 9 A5 (in), 10 A4 (in), 11 NC, 12 NC, 13 A3 (in), 14 A2 (in), 15 A1 (in), 16 A0 (in), 17 DQ0 (io), 18 DQ1 (io), 19 DQ2 (io), 20 DQ3 (io), 21 GND (power), 22 GND (power), 23 VCC (power), 24 DQ4 (io), 25 DQ5 (io), 26 DQ6 (io), 27 DQ7 (io), 28 RY/~{BY} (out), 29 ~{OE} (in), 30 ~{WE} (in), 31 NC, 32 NC, 33 NC, 34 NC, 35 A19 (in), 36 A18 (in), 37 A17 (in), 38 A16 (in), 39 A15 (in), 40 A14 (in), 41 A13 (in), 42 A12 (in), 43 ~{CE} (in), 44 VCC (power)